# Altium integrated library Xilinx XC9500.IntLib: 208 symbols (part 9 of 14)
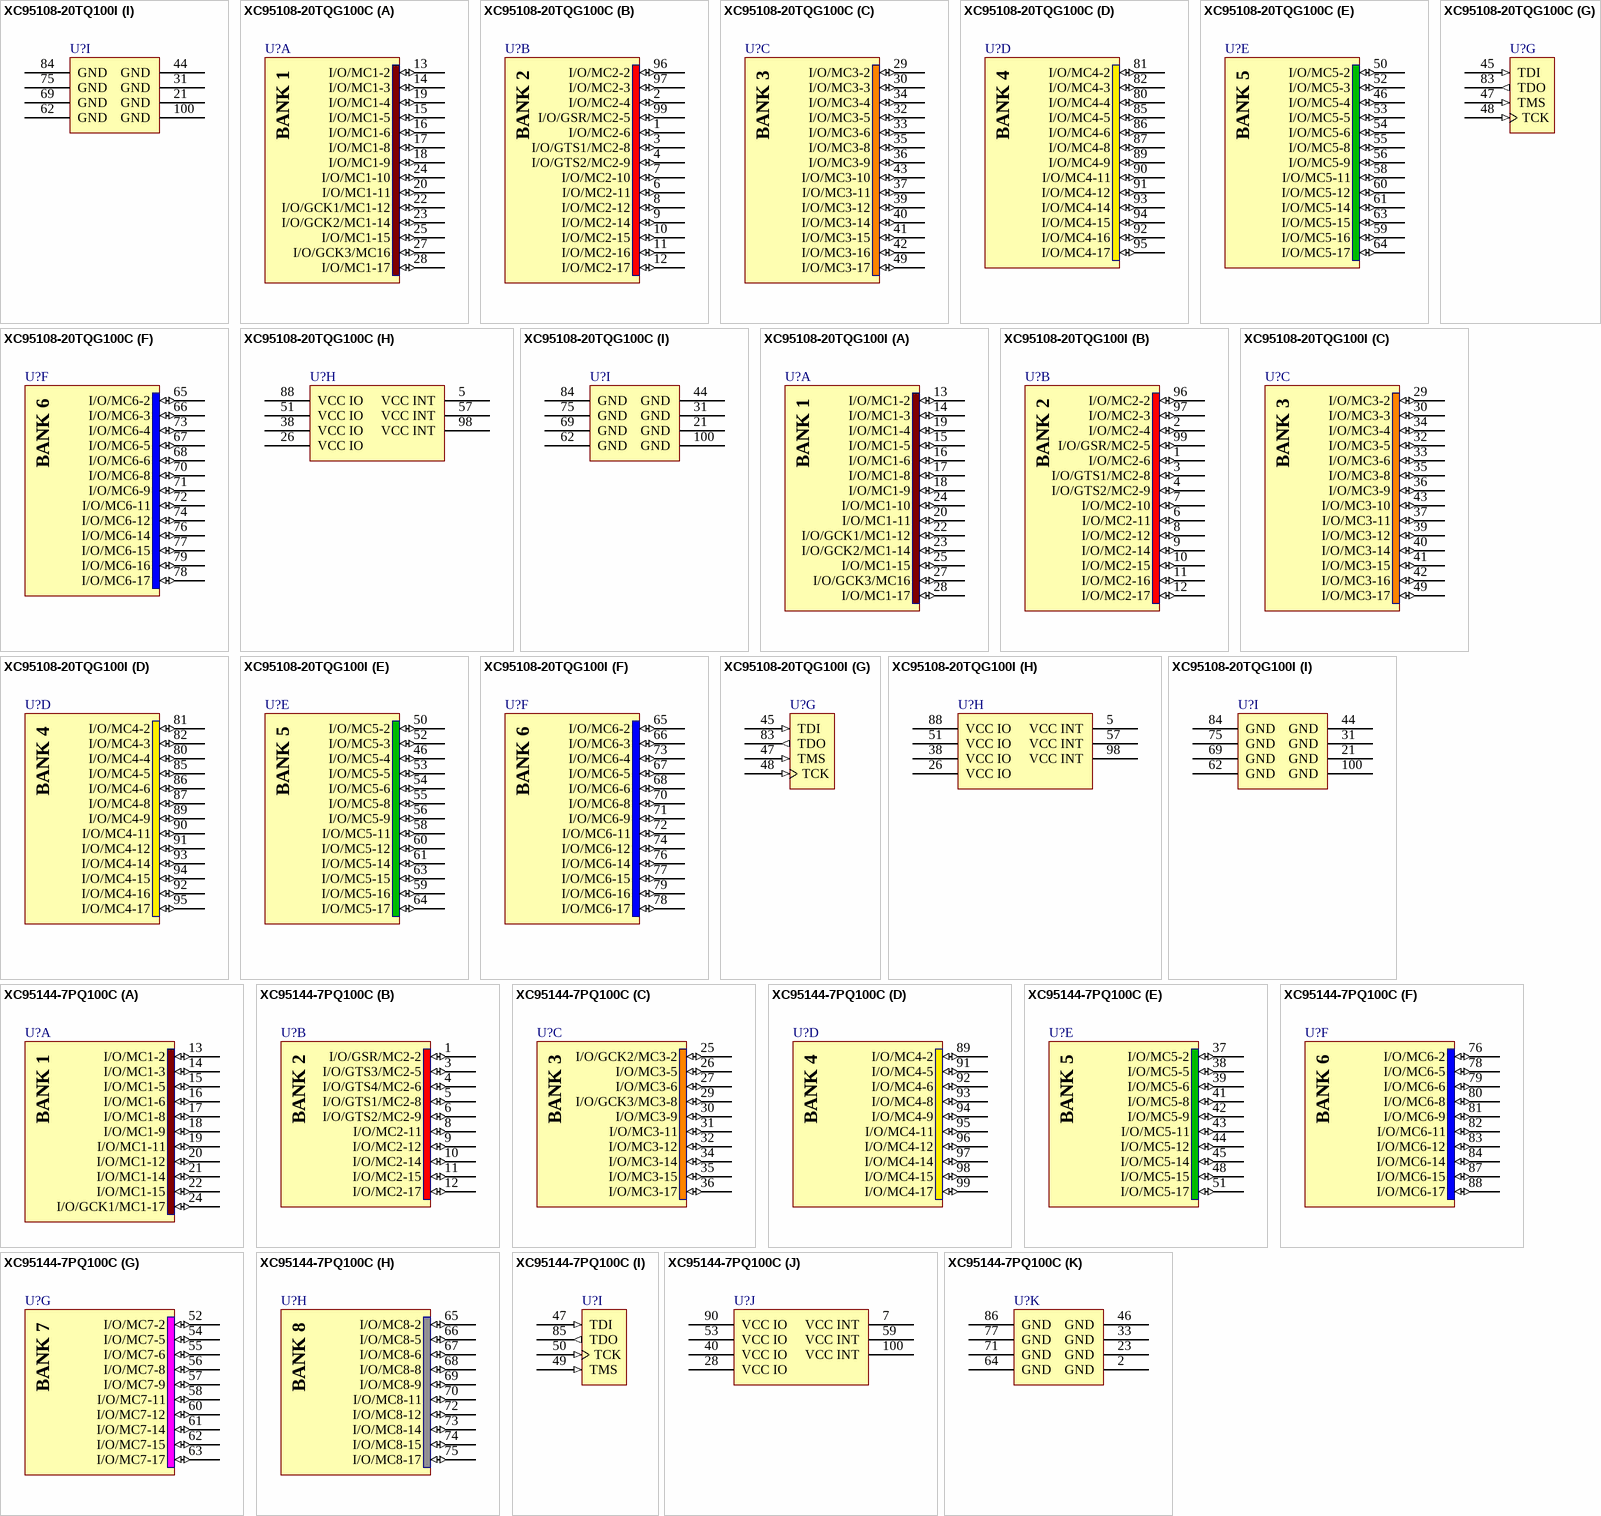
[diagram p81: symbols XC95108-20TQ100I to XC95144-7PQ100C]

## XC95144-7PQ100C
designator U?
XC9500 5V, 144 Macrocell CPLD, 81 User I/Os, 100-Pin PQFP, Commercial Grade; DatasheetVersion: ver5.7, May-2009; PackageVersion: ver1.2, Oct-2002; PackageReference: PQ100; PackageDescription: 100-Pin Plastic Quad Flat Pack (PQ100); Code_IPC: QFP65P1720X2320-100; ComponentLink1Description: Manufacturer URL; ComponentLink1URL: http://www.xilinx.com/; ComponentLink2Description: XC95144 Datasheet; ComponentLink2URL: http://www.xilinx.com/support/documentation/data_sheets/ds067.pdf; ComponentLink3Description: PQ100 Package Drawing; ComponentLink3URL: http://www.xilinx.com/support/documentation/package_specs/pq100.pdf; ComponentLink4Description: XC9500 Documents; ComponentLink4URL: http://www.xilinx.com/support/documentation/xc9500.htm
footprint PQ100_N (QFP, 100-Leads, Body 20x14mm, Pitch 0.65mm, IPC Medium Density)
footprint PQ100_L (QFP, 100-Leads, Body 20x14mm, Pitch 0.65mm, IPC High Density)
footprint PQ100_M (QFP, 100-Leads, Body 20x14mm, Pitch 0.65mm, IPC Low Density)
part A pins: 13 I/O/MC1-2 (io), 14 I/O/MC1-3 (io), 15 I/O/MC1-5 (io), 16 I/O/MC1-6 (io), 17 I/O/MC1-8 (io), 18 I/O/MC1-9 (io), 19 I/O/MC1-11 (io), 20 I/O/MC1-12 (io), 21 I/O/MC1-14 (io), 22 I/O/MC1-15 (io), 24 I/O/GCK1/MC1-17 (io)
part B pins: 1 I/O/GSR/MC2-2 (io), 3 I/O/GTS3/MC2-5 (io), 4 I/O/GTS4/MC2-6 (io), 5 I/O/GTS1/MC2-8 (io), 6 I/O/GTS2/MC2-9 (io), 8 I/O/MC2-11 (io), 9 I/O/MC2-12 (io), 10 I/O/MC2-14 (io), 11 I/O/MC2-15 (io), 12 I/O/MC2-17 (io)
part C pins: 25 I/O/GCK2/MC3-2 (io), 26 I/O/MC3-5 (io), 27 I/O/MC3-6 (io), 29 I/O/GCK3/MC3-8 (io), 30 I/O/MC3-9 (io), 31 I/O/MC3-11 (io), 32 I/O/MC3-12 (io), 34 I/O/MC3-14 (io), 35 I/O/MC3-15 (io), 36 I/O/MC3-17 (io)
part D pins: 89 I/O/MC4-2 (io), 91 I/O/MC4-5 (io), 92 I/O/MC4-6 (io), 93 I/O/MC4-8 (io), 94 I/O/MC4-9 (io), 95 I/O/MC4-11 (io), 96 I/O/MC4-12 (io), 97 I/O/MC4-14 (io), 98 I/O/MC4-15 (io), 99 I/O/MC4-17 (io)
part E pins: 37 I/O/MC5-2 (io), 38 I/O/MC5-5 (io), 39 I/O/MC5-6 (io), 41 I/O/MC5-8 (io), 42 I/O/MC5-9 (io), 43 I/O/MC5-11 (io), 44 I/O/MC5-12 (io), 45 I/O/MC5-14 (io), 48 I/O/MC5-15 (io), 51 I/O/MC5-17 (io)
part F pins: 76 I/O/MC6-2 (io), 78 I/O/MC6-5 (io), 79 I/O/MC6-6 (io), 80 I/O/MC6-8 (io), 81 I/O/MC6-9 (io), 82 I/O/MC6-11 (io), 83 I/O/MC6-12 (io), 84 I/O/MC6-14 (io), 87 I/O/MC6-15 (io), 88 I/O/MC6-17 (io)
part G pins: 52 I/O/MC7-2 (io), 54 I/O/MC7-5 (io), 55 I/O/MC7-6 (io), 56 I/O/MC7-8 (io), 57 I/O/MC7-9 (io), 58 I/O/MC7-11 (io), 60 I/O/MC7-12 (io), 61 I/O/MC7-14 (io), 62 I/O/MC7-15 (io), 63 I/O/MC7-17 (io)
part H pins: 65 I/O/MC8-2 (io), 66 I/O/MC8-5 (io), 67 I/O/MC8-6 (io), 68 I/O/MC8-8 (io), 69 I/O/MC8-9 (io), 70 I/O/MC8-11 (io), 72 I/O/MC8-12 (io), 73 I/O/MC8-14 (io), 74 I/O/MC8-15 (io), 75 I/O/MC8-17 (io)
part I pins: 47 TDI (in), 49 TMS (in), 50 TCK (in), 85 TDO (out)
part J pins: 7 VCC INT (power), 28 VCC IO (power), 40 VCC IO (power), 53 VCC IO (power), 59 VCC INT (power), 90 VCC IO (power), 100 VCC INT (power)
part K pins: 2 GND (power), 23 GND (power), 33 GND (power), 46 GND (power), 64 GND (power), 71 GND (power), 77 GND (power), 86 GND (power)
part A text: BANK 1
part B text: BANK 2
part C text: BANK 3
part D text: BANK 4
part E text: BANK 5
part F text: BANK 6
part G text: BANK 7
part H text: BANK 8

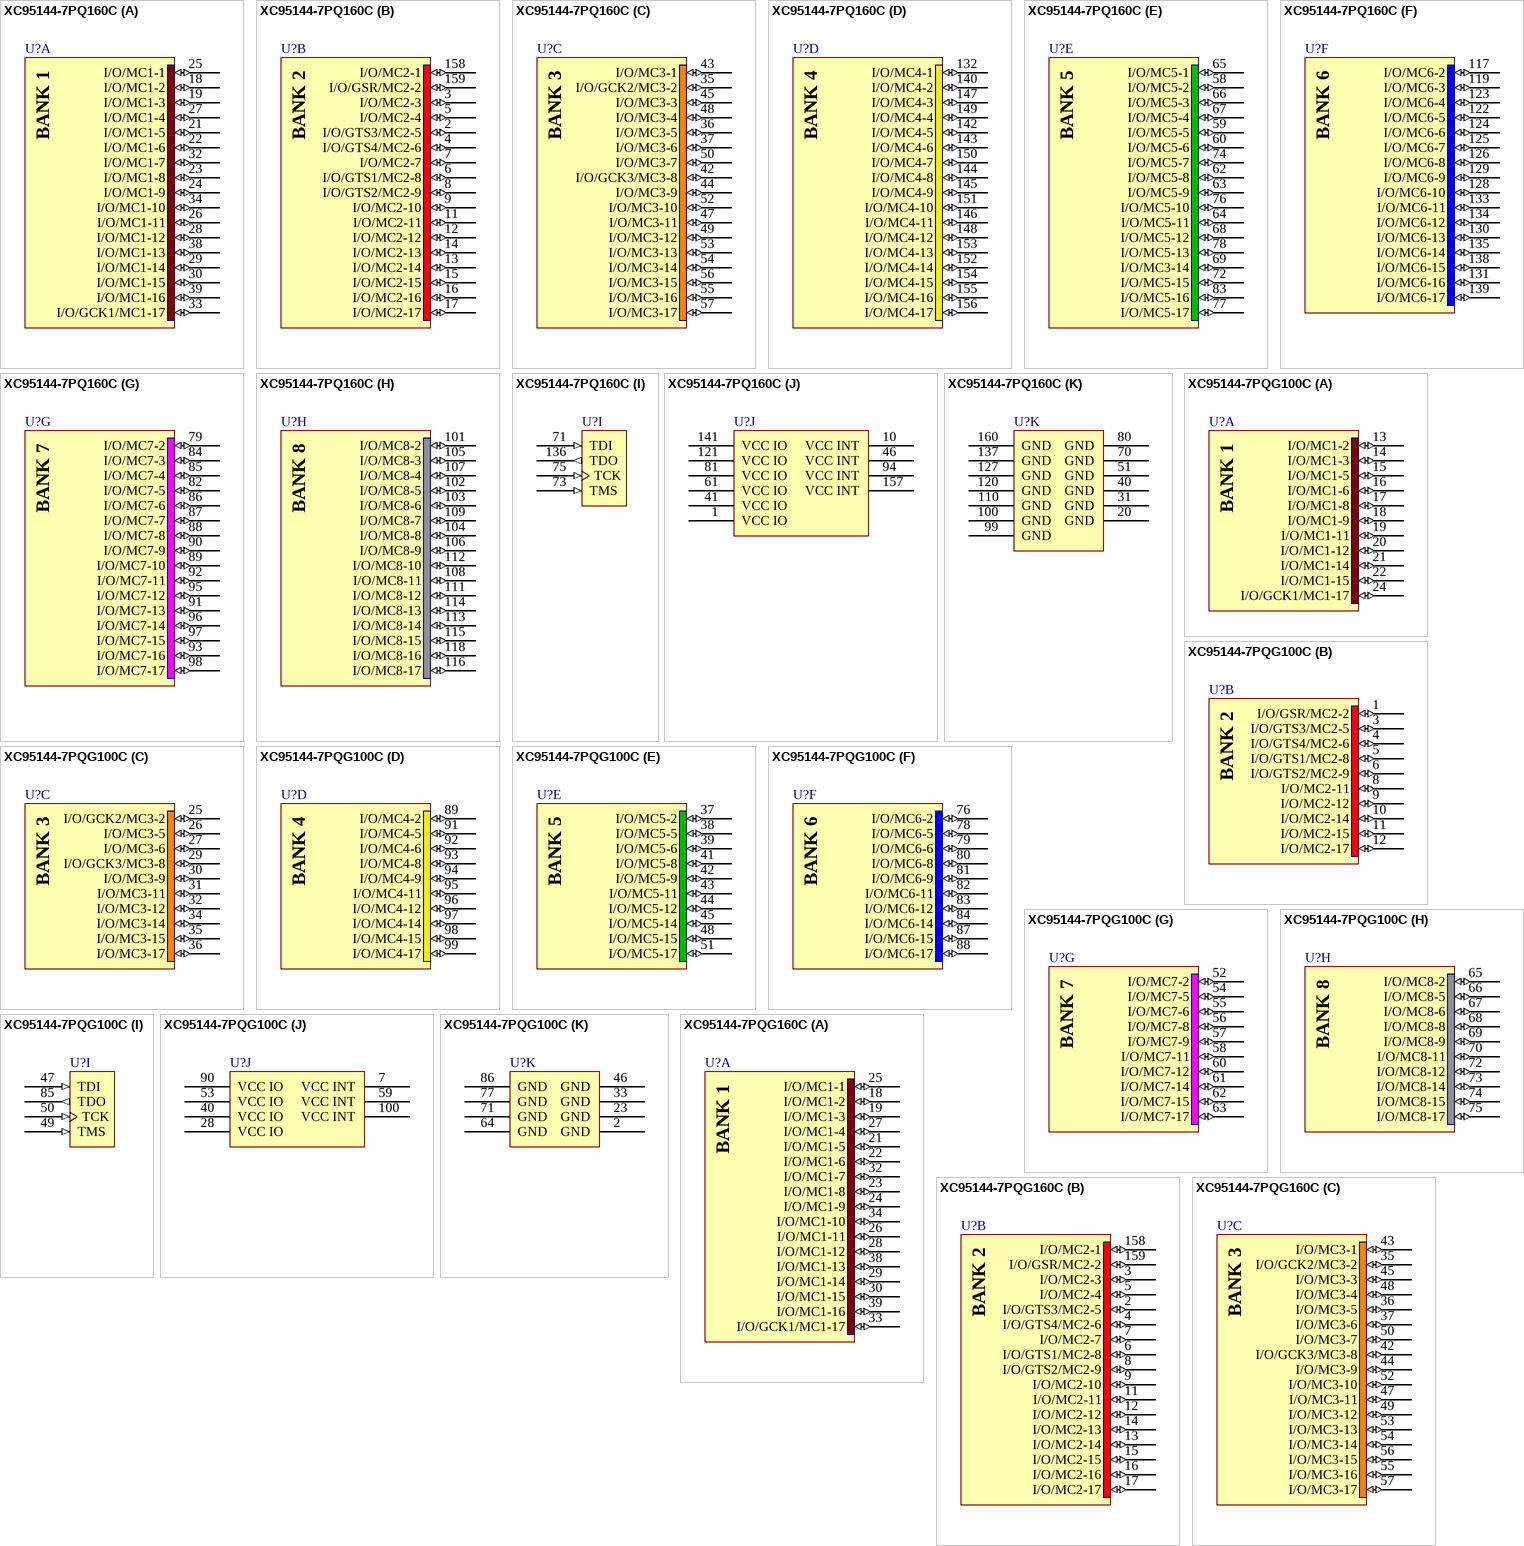
[diagram p41: symbols XC95144-7PQ160C to XC95144-7PQG160C]

## XC95144-7PQ160C
designator U?
XC9500 5V, 144 Macrocell CPLD, 133 User I/Os, 160-Pin PQFP, Commercial Grade; DatasheetVersion: ver5.7, May-2009; PackageVersion: ver1.2, Jun-2004; PackageReference: PQ160; PackageDescription: 160-Pin Plastic Quad Flat Pack (PQ160); Code_JEDEC: MS-022-DD1; Code_IPC: QFP65P3120X3120-160; ComponentLink1Description: Manufacturer URL; ComponentLink1URL: http://www.xilinx.com/; ComponentLink2Description: XC95144 Datasheet; ComponentLink2URL: http://www.xilinx.com/support/documentation/data_sheets/ds067.pdf; ComponentLink3Description: PQ160 Package Drawing; ComponentLink3URL: http://www.xilinx.com/support/documentation/package_specs/pq160.pdf; ComponentLink4Description: XC9500 Documents; ComponentLink4URL: http://www.xilinx.com/support/documentation/xc9500.htm
footprint PQ160_N (QFP, 160-Leads, Body 28x28mm, Pitch 0.65mm, IPC Medium Density)
footprint PQ160_L (QFP, 160-Leads, Body 28x28mm, Pitch 0.65mm, IPC High Density)
footprint PQ160_M (QFP, 160-Leads, Body 28x28mm, Pitch 0.65mm, IPC Low Density)
part A pins: 18 I/O/MC1-2 (io), 19 I/O/MC1-3 (io), 21 I/O/MC1-5 (io), 22 I/O/MC1-6 (io), 23 I/O/MC1-8 (io), 24 I/O/MC1-9 (io), 25 I/O/MC1-1 (io), 26 I/O/MC1-11 (io), 27 I/O/MC1-4 (io), 28 I/O/MC1-12 (io), 29 I/O/MC1-14 (io), 30 I/O/MC1-15 (io), 32 I/O/MC1-7 (io), 33 I/O/GCK1/MC1-17 (io), 34 I/O/MC1-10 (io), 38 I/O/MC1-13 (io), 39 I/O/MC1-16 (io)
part B pins: 2 I/O/GTS3/MC2-5 (io), 3 I/O/MC2-3 (io), 4 I/O/GTS4/MC2-6 (io), 5 I/O/MC2-4 (io), 6 I/O/GTS1/MC2-8 (io), 7 I/O/MC2-7 (io), 8 I/O/GTS2/MC2-9 (io), 9 I/O/MC2-10 (io), 11 I/O/MC2-11 (io), 12 I/O/MC2-12 (io), 13 I/O/MC2-14 (io), 14 I/O/MC2-13 (io), 15 I/O/MC2-15 (io), 16 I/O/MC2-16 (io), 17 I/O/MC2-17 (io), 158 I/O/MC2-1 (io), 159 I/O/GSR/MC2-2 (io)
part C pins: 35 I/O/GCK2/MC3-2 (io), 36 I/O/MC3-5 (io), 37 I/O/MC3-6 (io), 42 I/O/GCK3/MC3-8 (io), 43 I/O/MC3-1 (io), 44 I/O/MC3-9 (io), 45 I/O/MC3-3 (io), 47 I/O/MC3-11 (io), 48 I/O/MC3-4 (io), 49 I/O/MC3-12 (io), 50 I/O/MC3-7 (io), 52 I/O/MC3-10 (io), 53 I/O/MC3-13 (io), 54 I/O/MC3-14 (io), 55 I/O/MC3-16 (io), 56 I/O/MC3-15 (io), 57 I/O/MC3-17 (io)
part D pins: 132 I/O/MC4-1 (io), 140 I/O/MC4-2 (io), 142 I/O/MC4-5 (io), 143 I/O/MC4-6 (io), 144 I/O/MC4-8 (io), 145 I/O/MC4-9 (io), 146 I/O/MC4-11 (io), 147 I/O/MC4-3 (io), 148 I/O/MC4-12 (io), 149 I/O/MC4-4 (io), 150 I/O/MC4-7 (io), 151 I/O/MC4-10 (io), 152 I/O/MC4-14 (io), 153 I/O/MC4-13 (io), 154 I/O/MC4-15 (io), 155 I/O/MC4-16 (io), 156 I/O/MC4-17 (io)
part E pins: 58 I/O/MC5-2 (io), 59 I/O/MC5-5 (io), 60 I/O/MC5-6 (io), 62 I/O/MC5-8 (io), 63 I/O/MC5-9 (io), 64 I/O/MC5-11 (io), 65 I/O/MC5-1 (io), 66 I/O/MC5-3 (io), 67 I/O/MC5-4 (io), 68 I/O/MC5-12 (io), 69 I/O/MC3-14 (io), 72 I/O/MC5-15 (io), 74 I/O/MC5-7 (io), 76 I/O/MC5-10 (io), 77 I/O/MC5-17 (io), 78 I/O/MC5-13 (io), 83 I/O/MC5-16 (io)
part F pins: 117 I/O/MC6-2 (io), 119 I/O/MC6-3 (io), 122 I/O/MC6-5 (io), 123 I/O/MC6-4 (io), 124 I/O/MC6-6 (io), 125 I/O/MC6-7 (io), 126 I/O/MC6-8 (io), 128 I/O/MC6-10 (io), 129 I/O/MC6-9 (io), 130 I/O/MC6-13 (io), 131 I/O/MC6-16 (io), 133 I/O/MC6-11 (io), 134 I/O/MC6-12 (io), 135 I/O/MC6-14 (io), 138 I/O/MC6-15 (io), 139 I/O/MC6-17 (io)
part G pins: 79 I/O/MC7-2 (io), 82 I/O/MC7-5 (io), 84 I/O/MC7-3 (io), 85 I/O/MC7-4 (io), 86 I/O/MC7-6 (io), 87 I/O/MC7-7 (io), 88 I/O/MC7-8 (io), 89 I/O/MC7-10 (io), 90 I/O/MC7-9 (io), 91 I/O/MC7-13 (io), 92 I/O/MC7-11 (io), 93 I/O/MC7-16 (io), 95 I/O/MC7-12 (io), 96 I/O/MC7-14 (io), 97 I/O/MC7-15 (io), 98 I/O/MC7-17 (io)
part H pins: 101 I/O/MC8-2 (io), 102 I/O/MC8-5 (io), 103 I/O/MC8-6 (io), 104 I/O/MC8-8 (io), 105 I/O/MC8-3 (io), 106 I/O/MC8-9 (io), 107 I/O/MC8-4 (io), 108 I/O/MC8-11 (io), 109 I/O/MC8-7 (io), 111 I/O/MC8-12 (io), 112 I/O/MC8-10 (io), 113 I/O/MC8-14 (io), 114 I/O/MC8-13 (io), 115 I/O/MC8-15 (io), 116 I/O/MC8-17 (io), 118 I/O/MC8-16 (io)
part I pins: 71 TDI (in), 73 TMS (in), 75 TCK (in), 136 TDO (out)
part J pins: 1 VCC IO (power), 10 VCC INT (power), 41 VCC IO (power), 46 VCC INT (power), 61 VCC IO (power), 81 VCC IO (power), 94 VCC INT (power), 121 VCC IO (power), 141 VCC IO (power), 157 VCC INT (power)
part K pins: 20 GND (power), 31 GND (power), 40 GND (power), 51 GND (power), 70 GND (power), 80 GND (power), 99 GND (power), 100 GND (power), 110 GND (power), 120 GND (power), 127 GND (power), 137 GND (power), 160 GND (power)
part A text: BANK 1
part B text: BANK 2
part C text: BANK 3
part D text: BANK 4
part E text: BANK 5
part F text: BANK 6
part G text: BANK 7
part H text: BANK 8

## XC95144-7PQG100C
designator U?
XC9500 5V, 144 Macrocell CPLD, 81 User I/Os, 100-Pin PQFP, Commercial Grade, Pb-Free; DatasheetVersion: ver5.7, May-2009; PackageVersion: ver1.2, Oct-2002; PackageReference: PQG100; PackageDescription: 100-Pin Plastic Quad Flat Pack (PQG100) - Pb-Free; Code_IPC: QFP65P1720X2320-100; ComponentLink1Description: Manufacturer URL; ComponentLink1URL: http://www.xilinx.com/; ComponentLink2Description: XC95144 Datasheet; ComponentLink2URL: http://www.xilinx.com/support/documentation/data_sheets/ds067.pdf; ComponentLink3Description: PQG100 Package Drawing; ComponentLink3URL: http://www.xilinx.com/support/documentation/package_specs/pq100.pdf; ComponentLink4Description: XC9500 Documents; ComponentLink4URL: http://www.xilinx.com/support/documentation/xc9500.htm
footprint PQG100_N (QFP, 100-Leads, Body 20x14mm, Pitch 0.65mm, IPC Medium Density)
footprint PQG100_L (QFP, 100-Leads, Body 20x14mm, Pitch 0.65mm, IPC High Density)
footprint PQG100_M (QFP, 100-Leads, Body 20x14mm, Pitch 0.65mm, IPC Low Density)
part A pins: 13 I/O/MC1-2 (io), 14 I/O/MC1-3 (io), 15 I/O/MC1-5 (io), 16 I/O/MC1-6 (io), 17 I/O/MC1-8 (io), 18 I/O/MC1-9 (io), 19 I/O/MC1-11 (io), 20 I/O/MC1-12 (io), 21 I/O/MC1-14 (io), 22 I/O/MC1-15 (io), 24 I/O/GCK1/MC1-17 (io)
part B pins: 1 I/O/GSR/MC2-2 (io), 3 I/O/GTS3/MC2-5 (io), 4 I/O/GTS4/MC2-6 (io), 5 I/O/GTS1/MC2-8 (io), 6 I/O/GTS2/MC2-9 (io), 8 I/O/MC2-11 (io), 9 I/O/MC2-12 (io), 10 I/O/MC2-14 (io), 11 I/O/MC2-15 (io), 12 I/O/MC2-17 (io)
part C pins: 25 I/O/GCK2/MC3-2 (io), 26 I/O/MC3-5 (io), 27 I/O/MC3-6 (io), 29 I/O/GCK3/MC3-8 (io), 30 I/O/MC3-9 (io), 31 I/O/MC3-11 (io), 32 I/O/MC3-12 (io), 34 I/O/MC3-14 (io), 35 I/O/MC3-15 (io), 36 I/O/MC3-17 (io)
part D pins: 89 I/O/MC4-2 (io), 91 I/O/MC4-5 (io), 92 I/O/MC4-6 (io), 93 I/O/MC4-8 (io), 94 I/O/MC4-9 (io), 95 I/O/MC4-11 (io), 96 I/O/MC4-12 (io), 97 I/O/MC4-14 (io), 98 I/O/MC4-15 (io), 99 I/O/MC4-17 (io)
part E pins: 37 I/O/MC5-2 (io), 38 I/O/MC5-5 (io), 39 I/O/MC5-6 (io), 41 I/O/MC5-8 (io), 42 I/O/MC5-9 (io), 43 I/O/MC5-11 (io), 44 I/O/MC5-12 (io), 45 I/O/MC5-14 (io), 48 I/O/MC5-15 (io), 51 I/O/MC5-17 (io)
part F pins: 76 I/O/MC6-2 (io), 78 I/O/MC6-5 (io), 79 I/O/MC6-6 (io), 80 I/O/MC6-8 (io), 81 I/O/MC6-9 (io), 82 I/O/MC6-11 (io), 83 I/O/MC6-12 (io), 84 I/O/MC6-14 (io), 87 I/O/MC6-15 (io), 88 I/O/MC6-17 (io)
part G pins: 52 I/O/MC7-2 (io), 54 I/O/MC7-5 (io), 55 I/O/MC7-6 (io), 56 I/O/MC7-8 (io), 57 I/O/MC7-9 (io), 58 I/O/MC7-11 (io), 60 I/O/MC7-12 (io), 61 I/O/MC7-14 (io), 62 I/O/MC7-15 (io), 63 I/O/MC7-17 (io)
part H pins: 65 I/O/MC8-2 (io), 66 I/O/MC8-5 (io), 67 I/O/MC8-6 (io), 68 I/O/MC8-8 (io), 69 I/O/MC8-9 (io), 70 I/O/MC8-11 (io), 72 I/O/MC8-12 (io), 73 I/O/MC8-14 (io), 74 I/O/MC8-15 (io), 75 I/O/MC8-17 (io)
part I pins: 47 TDI (in), 49 TMS (in), 50 TCK (in), 85 TDO (out)
part J pins: 7 VCC INT (power), 28 VCC IO (power), 40 VCC IO (power), 53 VCC IO (power), 59 VCC INT (power), 90 VCC IO (power), 100 VCC INT (power)
part K pins: 2 GND (power), 23 GND (power), 33 GND (power), 46 GND (power), 64 GND (power), 71 GND (power), 77 GND (power), 86 GND (power)
part A text: BANK 1
part B text: BANK 2
part C text: BANK 3
part D text: BANK 4
part E text: BANK 5
part F text: BANK 6
part G text: BANK 7
part H text: BANK 8

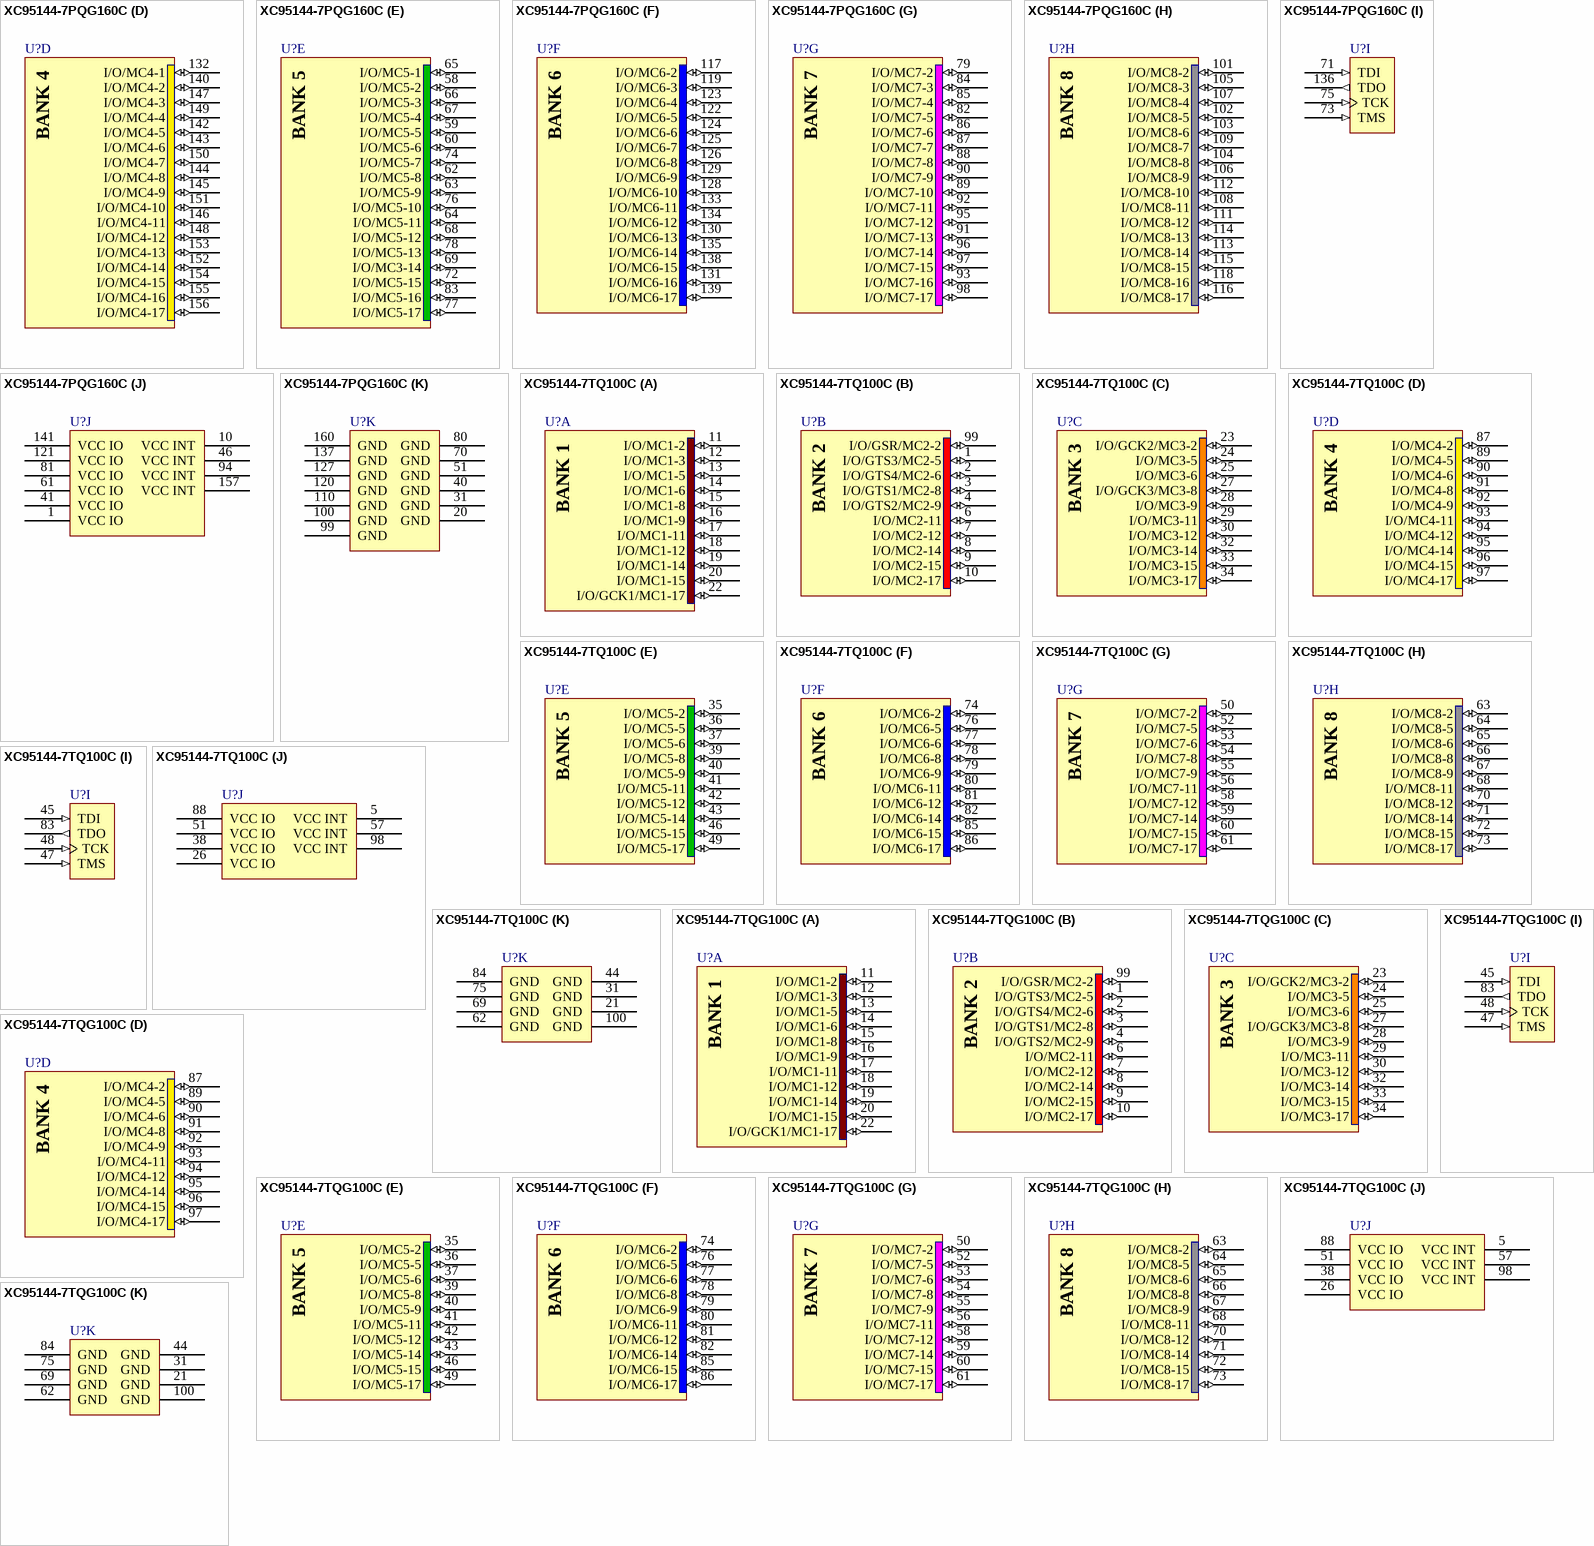
[diagram p42: symbols XC95144-7PQG160C to XC95144-7TQG100C]

## XC95144-7PQG160C
designator U?
XC9500 5V, 144 Macrocell CPLD, 133 User I/Os, 160-Pin PQFP, Commercial Grade, Pb-Free; DatasheetVersion: ver5.7, May-2009; PackageVersion: ver1.2, Jun-2004; PackageReference: PQG160; PackageDescription: 160-Pin Plastic Quad Flat Pack (PQG160) - Pb-Free; Code_JEDEC: MS-022-DD1; Code_IPC: QFP65P3120X3120-160; ComponentLink1Description: Manufacturer URL; ComponentLink1URL: http://www.xilinx.com/; ComponentLink2Description: XC95144 Datasheet; ComponentLink2URL: http://www.xilinx.com/support/documentation/data_sheets/ds067.pdf; ComponentLink3Description: PQG160 Package Drawing; ComponentLink3URL: http://www.xilinx.com/support/documentation/package_specs/pq160.pdf; ComponentLink4Description: XC9500 Documents; ComponentLink4URL: http://www.xilinx.com/support/documentation/xc9500.htm
footprint PQG160_N (QFP, 160-Leads, Body 28x28mm, Pitch 0.65mm, IPC Medium Density)
footprint PQG160_L (QFP, 160-Leads, Body 28x28mm, Pitch 0.65mm, IPC High Density)
footprint PQG160_M (QFP, 160-Leads, Body 28x28mm, Pitch 0.65mm, IPC Low Density)
part A pins: 18 I/O/MC1-2 (io), 19 I/O/MC1-3 (io), 21 I/O/MC1-5 (io), 22 I/O/MC1-6 (io), 23 I/O/MC1-8 (io), 24 I/O/MC1-9 (io), 25 I/O/MC1-1 (io), 26 I/O/MC1-11 (io), 27 I/O/MC1-4 (io), 28 I/O/MC1-12 (io), 29 I/O/MC1-14 (io), 30 I/O/MC1-15 (io), 32 I/O/MC1-7 (io), 33 I/O/GCK1/MC1-17 (io), 34 I/O/MC1-10 (io), 38 I/O/MC1-13 (io), 39 I/O/MC1-16 (io)
part B pins: 2 I/O/GTS3/MC2-5 (io), 3 I/O/MC2-3 (io), 4 I/O/GTS4/MC2-6 (io), 5 I/O/MC2-4 (io), 6 I/O/GTS1/MC2-8 (io), 7 I/O/MC2-7 (io), 8 I/O/GTS2/MC2-9 (io), 9 I/O/MC2-10 (io), 11 I/O/MC2-11 (io), 12 I/O/MC2-12 (io), 13 I/O/MC2-14 (io), 14 I/O/MC2-13 (io), 15 I/O/MC2-15 (io), 16 I/O/MC2-16 (io), 17 I/O/MC2-17 (io), 158 I/O/MC2-1 (io), 159 I/O/GSR/MC2-2 (io)
part C pins: 35 I/O/GCK2/MC3-2 (io), 36 I/O/MC3-5 (io), 37 I/O/MC3-6 (io), 42 I/O/GCK3/MC3-8 (io), 43 I/O/MC3-1 (io), 44 I/O/MC3-9 (io), 45 I/O/MC3-3 (io), 47 I/O/MC3-11 (io), 48 I/O/MC3-4 (io), 49 I/O/MC3-12 (io), 50 I/O/MC3-7 (io), 52 I/O/MC3-10 (io), 53 I/O/MC3-13 (io), 54 I/O/MC3-14 (io), 55 I/O/MC3-16 (io), 56 I/O/MC3-15 (io), 57 I/O/MC3-17 (io)
part D pins: 132 I/O/MC4-1 (io), 140 I/O/MC4-2 (io), 142 I/O/MC4-5 (io), 143 I/O/MC4-6 (io), 144 I/O/MC4-8 (io), 145 I/O/MC4-9 (io), 146 I/O/MC4-11 (io), 147 I/O/MC4-3 (io), 148 I/O/MC4-12 (io), 149 I/O/MC4-4 (io), 150 I/O/MC4-7 (io), 151 I/O/MC4-10 (io), 152 I/O/MC4-14 (io), 153 I/O/MC4-13 (io), 154 I/O/MC4-15 (io), 155 I/O/MC4-16 (io), 156 I/O/MC4-17 (io)
part E pins: 58 I/O/MC5-2 (io), 59 I/O/MC5-5 (io), 60 I/O/MC5-6 (io), 62 I/O/MC5-8 (io), 63 I/O/MC5-9 (io), 64 I/O/MC5-11 (io), 65 I/O/MC5-1 (io), 66 I/O/MC5-3 (io), 67 I/O/MC5-4 (io), 68 I/O/MC5-12 (io), 69 I/O/MC3-14 (io), 72 I/O/MC5-15 (io), 74 I/O/MC5-7 (io), 76 I/O/MC5-10 (io), 77 I/O/MC5-17 (io), 78 I/O/MC5-13 (io), 83 I/O/MC5-16 (io)
part F pins: 117 I/O/MC6-2 (io), 119 I/O/MC6-3 (io), 122 I/O/MC6-5 (io), 123 I/O/MC6-4 (io), 124 I/O/MC6-6 (io), 125 I/O/MC6-7 (io), 126 I/O/MC6-8 (io), 128 I/O/MC6-10 (io), 129 I/O/MC6-9 (io), 130 I/O/MC6-13 (io), 131 I/O/MC6-16 (io), 133 I/O/MC6-11 (io), 134 I/O/MC6-12 (io), 135 I/O/MC6-14 (io), 138 I/O/MC6-15 (io), 139 I/O/MC6-17 (io)
part G pins: 79 I/O/MC7-2 (io), 82 I/O/MC7-5 (io), 84 I/O/MC7-3 (io), 85 I/O/MC7-4 (io), 86 I/O/MC7-6 (io), 87 I/O/MC7-7 (io), 88 I/O/MC7-8 (io), 89 I/O/MC7-10 (io), 90 I/O/MC7-9 (io), 91 I/O/MC7-13 (io), 92 I/O/MC7-11 (io), 93 I/O/MC7-16 (io), 95 I/O/MC7-12 (io), 96 I/O/MC7-14 (io), 97 I/O/MC7-15 (io), 98 I/O/MC7-17 (io)
part H pins: 101 I/O/MC8-2 (io), 102 I/O/MC8-5 (io), 103 I/O/MC8-6 (io), 104 I/O/MC8-8 (io), 105 I/O/MC8-3 (io), 106 I/O/MC8-9 (io), 107 I/O/MC8-4 (io), 108 I/O/MC8-11 (io), 109 I/O/MC8-7 (io), 111 I/O/MC8-12 (io), 112 I/O/MC8-10 (io), 113 I/O/MC8-14 (io), 114 I/O/MC8-13 (io), 115 I/O/MC8-15 (io), 116 I/O/MC8-17 (io), 118 I/O/MC8-16 (io)
part I pins: 71 TDI (in), 73 TMS (in), 75 TCK (in), 136 TDO (out)
part J pins: 1 VCC IO (power), 10 VCC INT (power), 41 VCC IO (power), 46 VCC INT (power), 61 VCC IO (power), 81 VCC IO (power), 94 VCC INT (power), 121 VCC IO (power), 141 VCC IO (power), 157 VCC INT (power)
part K pins: 20 GND (power), 31 GND (power), 40 GND (power), 51 GND (power), 70 GND (power), 80 GND (power), 99 GND (power), 100 GND (power), 110 GND (power), 120 GND (power), 127 GND (power), 137 GND (power), 160 GND (power)
part A text: BANK 1
part B text: BANK 2
part C text: BANK 3
part D text: BANK 4
part E text: BANK 5
part F text: BANK 6
part G text: BANK 7
part H text: BANK 8

## XC95144-7TQ100C
designator U?
XC9500 5V, 144 Macrocell CPLD, 81 User I/Os, 100-Pin TQFP, Commercial Grade; DatasheetVersion: ver5.7, May-2009; PackageVersion: ver1.2, Jun-2004; PackageReference: TQ100; PackageDescription: 100-Pin Thin Quad Flat Pack (TQ100); ComponentLink1Description: Manufacturer URL; ComponentLink1URL: http://www.xilinx.com/; ComponentLink2Description: XC95144 Datasheet; ComponentLink2URL: http://www.xilinx.com/support/documentation/data_sheets/ds067.pdf; ComponentLink3Description: TQ100 Package Drawing; ComponentLink3URL: http://www.xilinx.com/support/documentation/package_specs/tq100.pdf; ComponentLink4Description: XC9500 Documents; ComponentLink4URL: http://www.xilinx.com/support/documentation/xc9500.htm
footprint TQ100_N (Thin QFP, 100-Leads, Body 14x14mm, Pitch 0.5mm, IPC Medium Density)
footprint TQ100_L (Thin QFP, 100-Leads, Body 14x14mm, Pitch 0.5mm, IPC High Density)
footprint TQ100_M (Thin QFP, 100-Leads, Body 14x14mm, Pitch 0.5mm, IPC Low Density)
part A pins: 11 I/O/MC1-2 (io), 12 I/O/MC1-3 (io), 13 I/O/MC1-5 (io), 14 I/O/MC1-6 (io), 15 I/O/MC1-8 (io), 16 I/O/MC1-9 (io), 17 I/O/MC1-11 (io), 18 I/O/MC1-12 (io), 19 I/O/MC1-14 (io), 20 I/O/MC1-15 (io), 22 I/O/GCK1/MC1-17 (io)
part B pins: 1 I/O/GTS3/MC2-5 (io), 2 I/O/GTS4/MC2-6 (io), 3 I/O/GTS1/MC2-8 (io), 4 I/O/GTS2/MC2-9 (io), 6 I/O/MC2-11 (io), 7 I/O/MC2-12 (io), 8 I/O/MC2-14 (io), 9 I/O/MC2-15 (io), 10 I/O/MC2-17 (io), 99 I/O/GSR/MC2-2 (io)
part C pins: 23 I/O/GCK2/MC3-2 (io), 24 I/O/MC3-5 (io), 25 I/O/MC3-6 (io), 27 I/O/GCK3/MC3-8 (io), 28 I/O/MC3-9 (io), 29 I/O/MC3-11 (io), 30 I/O/MC3-12 (io), 32 I/O/MC3-14 (io), 33 I/O/MC3-15 (io), 34 I/O/MC3-17 (io)
part D pins: 87 I/O/MC4-2 (io), 89 I/O/MC4-5 (io), 90 I/O/MC4-6 (io), 91 I/O/MC4-8 (io), 92 I/O/MC4-9 (io), 93 I/O/MC4-11 (io), 94 I/O/MC4-12 (io), 95 I/O/MC4-14 (io), 96 I/O/MC4-15 (io), 97 I/O/MC4-17 (io)
part E pins: 35 I/O/MC5-2 (io), 36 I/O/MC5-5 (io), 37 I/O/MC5-6 (io), 39 I/O/MC5-8 (io), 40 I/O/MC5-9 (io), 41 I/O/MC5-11 (io), 42 I/O/MC5-12 (io), 43 I/O/MC5-14 (io), 46 I/O/MC5-15 (io), 49 I/O/MC5-17 (io)
part F pins: 74 I/O/MC6-2 (io), 76 I/O/MC6-5 (io), 77 I/O/MC6-6 (io), 78 I/O/MC6-8 (io), 79 I/O/MC6-9 (io), 80 I/O/MC6-11 (io), 81 I/O/MC6-12 (io), 82 I/O/MC6-14 (io), 85 I/O/MC6-15 (io), 86 I/O/MC6-17 (io)
part G pins: 50 I/O/MC7-2 (io), 52 I/O/MC7-5 (io), 53 I/O/MC7-6 (io), 54 I/O/MC7-8 (io), 55 I/O/MC7-9 (io), 56 I/O/MC7-11 (io), 58 I/O/MC7-12 (io), 59 I/O/MC7-14 (io), 60 I/O/MC7-15 (io), 61 I/O/MC7-17 (io)
part H pins: 63 I/O/MC8-2 (io), 64 I/O/MC8-5 (io), 65 I/O/MC8-6 (io), 66 I/O/MC8-8 (io), 67 I/O/MC8-9 (io), 68 I/O/MC8-11 (io), 70 I/O/MC8-12 (io), 71 I/O/MC8-14 (io), 72 I/O/MC8-15 (io), 73 I/O/MC8-17 (io)
part I pins: 45 TDI (in), 47 TMS (in), 48 TCK (in), 83 TDO (out)
part J pins: 5 VCC INT (power), 26 VCC IO (power), 38 VCC IO (power), 51 VCC IO (power), 57 VCC INT (power), 88 VCC IO (power), 98 VCC INT (power)
part K pins: 21 GND (power), 31 GND (power), 44 GND (power), 62 GND (power), 69 GND (power), 75 GND (power), 84 GND (power), 100 GND (power)
part A text: BANK 1
part B text: BANK 2
part C text: BANK 3
part D text: BANK 4
part E text: BANK 5
part F text: BANK 6
part G text: BANK 7
part H text: BANK 8

## XC95144-7TQG100C
designator U?
XC9500 5V, 144 Macrocell CPLD, 81 User I/Os, 100-Pin TQFP, Commercial Grade, Pb-Free; DatasheetVersion: ver5.7, May-2009; PackageVersion: ver1.2, Jun-2004; PackageReference: TQG100; PackageDescription: 100-Pin Thin Quad Flat Pack (TQG100) - Pb-Free; ComponentLink1Description: Manufacturer URL; ComponentLink1URL: http://www.xilinx.com/; ComponentLink2Description: XC95144 Datasheet; ComponentLink2URL: http://www.xilinx.com/support/documentation/data_sheets/ds067.pdf; ComponentLink3Description: TQG100 Package Drawing; ComponentLink3URL: http://www.xilinx.com/support/documentation/package_specs/tq100.pdf; ComponentLink4Description: XC9500 Documents; ComponentLink4URL: http://www.xilinx.com/support/documentation/xc9500.htm
footprint TQG100_N (Thin QFP, 100-Leads, Body 14x14mm, Pitch 0.5mm, IPC Medium Density)
footprint TQG100_L (Thin QFP, 100-Leads, Body 14x14mm, Pitch 0.5mm, IPC High Density)
footprint TQG100_M (Thin QFP, 100-Leads, Body 14x14mm, Pitch 0.5mm, IPC Low Density)
part A pins: 11 I/O/MC1-2 (io), 12 I/O/MC1-3 (io), 13 I/O/MC1-5 (io), 14 I/O/MC1-6 (io), 15 I/O/MC1-8 (io), 16 I/O/MC1-9 (io), 17 I/O/MC1-11 (io), 18 I/O/MC1-12 (io), 19 I/O/MC1-14 (io), 20 I/O/MC1-15 (io), 22 I/O/GCK1/MC1-17 (io)
part B pins: 1 I/O/GTS3/MC2-5 (io), 2 I/O/GTS4/MC2-6 (io), 3 I/O/GTS1/MC2-8 (io), 4 I/O/GTS2/MC2-9 (io), 6 I/O/MC2-11 (io), 7 I/O/MC2-12 (io), 8 I/O/MC2-14 (io), 9 I/O/MC2-15 (io), 10 I/O/MC2-17 (io), 99 I/O/GSR/MC2-2 (io)
part C pins: 23 I/O/GCK2/MC3-2 (io), 24 I/O/MC3-5 (io), 25 I/O/MC3-6 (io), 27 I/O/GCK3/MC3-8 (io), 28 I/O/MC3-9 (io), 29 I/O/MC3-11 (io), 30 I/O/MC3-12 (io), 32 I/O/MC3-14 (io), 33 I/O/MC3-15 (io), 34 I/O/MC3-17 (io)
part D pins: 87 I/O/MC4-2 (io), 89 I/O/MC4-5 (io), 90 I/O/MC4-6 (io), 91 I/O/MC4-8 (io), 92 I/O/MC4-9 (io), 93 I/O/MC4-11 (io), 94 I/O/MC4-12 (io), 95 I/O/MC4-14 (io), 96 I/O/MC4-15 (io), 97 I/O/MC4-17 (io)
part E pins: 35 I/O/MC5-2 (io), 36 I/O/MC5-5 (io), 37 I/O/MC5-6 (io), 39 I/O/MC5-8 (io), 40 I/O/MC5-9 (io), 41 I/O/MC5-11 (io), 42 I/O/MC5-12 (io), 43 I/O/MC5-14 (io), 46 I/O/MC5-15 (io), 49 I/O/MC5-17 (io)
part F pins: 74 I/O/MC6-2 (io), 76 I/O/MC6-5 (io), 77 I/O/MC6-6 (io), 78 I/O/MC6-8 (io), 79 I/O/MC6-9 (io), 80 I/O/MC6-11 (io), 81 I/O/MC6-12 (io), 82 I/O/MC6-14 (io), 85 I/O/MC6-15 (io), 86 I/O/MC6-17 (io)
part G pins: 50 I/O/MC7-2 (io), 52 I/O/MC7-5 (io), 53 I/O/MC7-6 (io), 54 I/O/MC7-8 (io), 55 I/O/MC7-9 (io), 56 I/O/MC7-11 (io), 58 I/O/MC7-12 (io), 59 I/O/MC7-14 (io), 60 I/O/MC7-15 (io), 61 I/O/MC7-17 (io)
part H pins: 63 I/O/MC8-2 (io), 64 I/O/MC8-5 (io), 65 I/O/MC8-6 (io), 66 I/O/MC8-8 (io), 67 I/O/MC8-9 (io), 68 I/O/MC8-11 (io), 70 I/O/MC8-12 (io), 71 I/O/MC8-14 (io), 72 I/O/MC8-15 (io), 73 I/O/MC8-17 (io)
part I pins: 45 TDI (in), 47 TMS (in), 48 TCK (in), 83 TDO (out)
part J pins: 5 VCC INT (power), 26 VCC IO (power), 38 VCC IO (power), 51 VCC IO (power), 57 VCC INT (power), 88 VCC IO (power), 98 VCC INT (power)
part K pins: 21 GND (power), 31 GND (power), 44 GND (power), 62 GND (power), 69 GND (power), 75 GND (power), 84 GND (power), 100 GND (power)
part A text: BANK 1
part B text: BANK 2
part C text: BANK 3
part D text: BANK 4
part E text: BANK 5
part F text: BANK 6
part G text: BANK 7
part H text: BANK 8

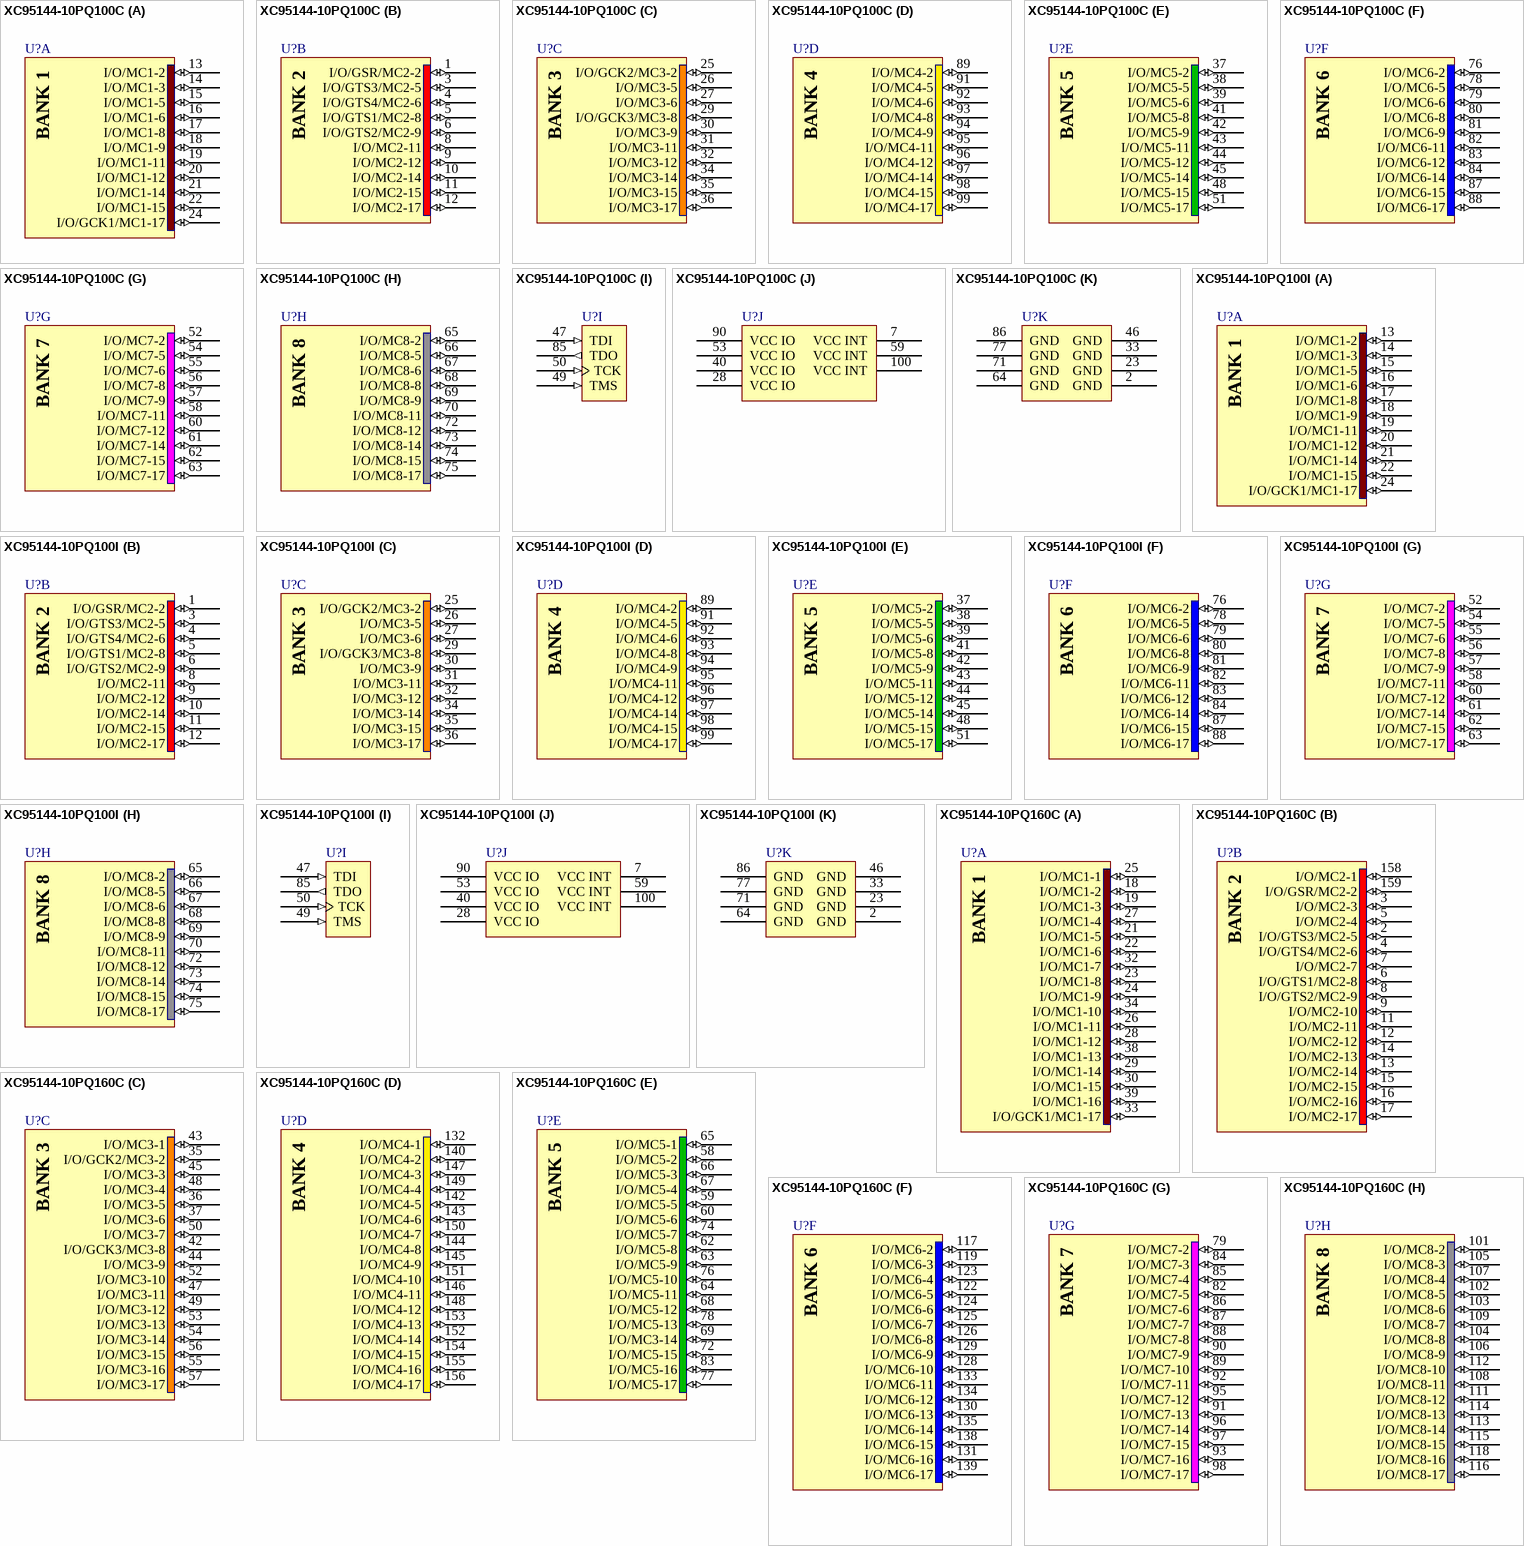
[diagram p43: symbols XC95144-10PQ100C to XC95144-10PQ160C]

## XC95144-10PQ100C
designator U?
XC9500 5V, 144 Macrocell CPLD, 81 User I/Os, 100-Pin PQFP, Commercial Grade; DatasheetVersion: ver5.7, May-2009; PackageVersion: ver1.2, Oct-2002; PackageReference: PQ100; PackageDescription: 100-Pin Plastic Quad Flat Pack (PQ100); Code_IPC: QFP65P1720X2320-100; ComponentLink1Description: Manufacturer URL; ComponentLink1URL: http://www.xilinx.com/; ComponentLink2Description: XC95144 Datasheet; ComponentLink2URL: http://www.xilinx.com/support/documentation/data_sheets/ds067.pdf; ComponentLink3Description: PQ100 Package Drawing; ComponentLink3URL: http://www.xilinx.com/support/documentation/package_specs/pq100.pdf; ComponentLink4Description: XC9500 Documents; ComponentLink4URL: http://www.xilinx.com/support/documentation/xc9500.htm
footprint PQ100_N (QFP, 100-Leads, Body 20x14mm, Pitch 0.65mm, IPC Medium Density)
footprint PQ100_L (QFP, 100-Leads, Body 20x14mm, Pitch 0.65mm, IPC High Density)
footprint PQ100_M (QFP, 100-Leads, Body 20x14mm, Pitch 0.65mm, IPC Low Density)
part A pins: 13 I/O/MC1-2 (io), 14 I/O/MC1-3 (io), 15 I/O/MC1-5 (io), 16 I/O/MC1-6 (io), 17 I/O/MC1-8 (io), 18 I/O/MC1-9 (io), 19 I/O/MC1-11 (io), 20 I/O/MC1-12 (io), 21 I/O/MC1-14 (io), 22 I/O/MC1-15 (io), 24 I/O/GCK1/MC1-17 (io)
part B pins: 1 I/O/GSR/MC2-2 (io), 3 I/O/GTS3/MC2-5 (io), 4 I/O/GTS4/MC2-6 (io), 5 I/O/GTS1/MC2-8 (io), 6 I/O/GTS2/MC2-9 (io), 8 I/O/MC2-11 (io), 9 I/O/MC2-12 (io), 10 I/O/MC2-14 (io), 11 I/O/MC2-15 (io), 12 I/O/MC2-17 (io)
part C pins: 25 I/O/GCK2/MC3-2 (io), 26 I/O/MC3-5 (io), 27 I/O/MC3-6 (io), 29 I/O/GCK3/MC3-8 (io), 30 I/O/MC3-9 (io), 31 I/O/MC3-11 (io), 32 I/O/MC3-12 (io), 34 I/O/MC3-14 (io), 35 I/O/MC3-15 (io), 36 I/O/MC3-17 (io)
part D pins: 89 I/O/MC4-2 (io), 91 I/O/MC4-5 (io), 92 I/O/MC4-6 (io), 93 I/O/MC4-8 (io), 94 I/O/MC4-9 (io), 95 I/O/MC4-11 (io), 96 I/O/MC4-12 (io), 97 I/O/MC4-14 (io), 98 I/O/MC4-15 (io), 99 I/O/MC4-17 (io)
part E pins: 37 I/O/MC5-2 (io), 38 I/O/MC5-5 (io), 39 I/O/MC5-6 (io), 41 I/O/MC5-8 (io), 42 I/O/MC5-9 (io), 43 I/O/MC5-11 (io), 44 I/O/MC5-12 (io), 45 I/O/MC5-14 (io), 48 I/O/MC5-15 (io), 51 I/O/MC5-17 (io)
part F pins: 76 I/O/MC6-2 (io), 78 I/O/MC6-5 (io), 79 I/O/MC6-6 (io), 80 I/O/MC6-8 (io), 81 I/O/MC6-9 (io), 82 I/O/MC6-11 (io), 83 I/O/MC6-12 (io), 84 I/O/MC6-14 (io), 87 I/O/MC6-15 (io), 88 I/O/MC6-17 (io)
part G pins: 52 I/O/MC7-2 (io), 54 I/O/MC7-5 (io), 55 I/O/MC7-6 (io), 56 I/O/MC7-8 (io), 57 I/O/MC7-9 (io), 58 I/O/MC7-11 (io), 60 I/O/MC7-12 (io), 61 I/O/MC7-14 (io), 62 I/O/MC7-15 (io), 63 I/O/MC7-17 (io)
part H pins: 65 I/O/MC8-2 (io), 66 I/O/MC8-5 (io), 67 I/O/MC8-6 (io), 68 I/O/MC8-8 (io), 69 I/O/MC8-9 (io), 70 I/O/MC8-11 (io), 72 I/O/MC8-12 (io), 73 I/O/MC8-14 (io), 74 I/O/MC8-15 (io), 75 I/O/MC8-17 (io)
part I pins: 47 TDI (in), 49 TMS (in), 50 TCK (in), 85 TDO (out)
part J pins: 7 VCC INT (power), 28 VCC IO (power), 40 VCC IO (power), 53 VCC IO (power), 59 VCC INT (power), 90 VCC IO (power), 100 VCC INT (power)
part K pins: 2 GND (power), 23 GND (power), 33 GND (power), 46 GND (power), 64 GND (power), 71 GND (power), 77 GND (power), 86 GND (power)
part A text: BANK 1
part B text: BANK 2
part C text: BANK 3
part D text: BANK 4
part E text: BANK 5
part F text: BANK 6
part G text: BANK 7
part H text: BANK 8

## XC95144-10PQ100I
designator U?
XC9500 5V, 144 Macrocell CPLD, 81 User I/Os, 100-Pin PQFP, Industrial Grade; DatasheetVersion: ver5.7, May-2009; PackageVersion: ver1.2, Oct-2002; PackageReference: PQ100; PackageDescription: 100-Pin Plastic Quad Flat Pack (PQ100); Code_IPC: QFP65P1720X2320-100; ComponentLink1Description: Manufacturer URL; ComponentLink1URL: http://www.xilinx.com/; ComponentLink2Description: XC95144 Datasheet; ComponentLink2URL: http://www.xilinx.com/support/documentation/data_sheets/ds067.pdf; ComponentLink3Description: PQ100 Package Drawing; ComponentLink3URL: http://www.xilinx.com/support/documentation/package_specs/pq100.pdf; ComponentLink4Description: XC9500 Documents; ComponentLink4URL: http://www.xilinx.com/support/documentation/xc9500.htm
footprint PQ100_N (QFP, 100-Leads, Body 20x14mm, Pitch 0.65mm, IPC Medium Density)
footprint PQ100_L (QFP, 100-Leads, Body 20x14mm, Pitch 0.65mm, IPC High Density)
footprint PQ100_M (QFP, 100-Leads, Body 20x14mm, Pitch 0.65mm, IPC Low Density)
part A pins: 13 I/O/MC1-2 (io), 14 I/O/MC1-3 (io), 15 I/O/MC1-5 (io), 16 I/O/MC1-6 (io), 17 I/O/MC1-8 (io), 18 I/O/MC1-9 (io), 19 I/O/MC1-11 (io), 20 I/O/MC1-12 (io), 21 I/O/MC1-14 (io), 22 I/O/MC1-15 (io), 24 I/O/GCK1/MC1-17 (io)
part B pins: 1 I/O/GSR/MC2-2 (io), 3 I/O/GTS3/MC2-5 (io), 4 I/O/GTS4/MC2-6 (io), 5 I/O/GTS1/MC2-8 (io), 6 I/O/GTS2/MC2-9 (io), 8 I/O/MC2-11 (io), 9 I/O/MC2-12 (io), 10 I/O/MC2-14 (io), 11 I/O/MC2-15 (io), 12 I/O/MC2-17 (io)
part C pins: 25 I/O/GCK2/MC3-2 (io), 26 I/O/MC3-5 (io), 27 I/O/MC3-6 (io), 29 I/O/GCK3/MC3-8 (io), 30 I/O/MC3-9 (io), 31 I/O/MC3-11 (io), 32 I/O/MC3-12 (io), 34 I/O/MC3-14 (io), 35 I/O/MC3-15 (io), 36 I/O/MC3-17 (io)
part D pins: 89 I/O/MC4-2 (io), 91 I/O/MC4-5 (io), 92 I/O/MC4-6 (io), 93 I/O/MC4-8 (io), 94 I/O/MC4-9 (io), 95 I/O/MC4-11 (io), 96 I/O/MC4-12 (io), 97 I/O/MC4-14 (io), 98 I/O/MC4-15 (io), 99 I/O/MC4-17 (io)
part E pins: 37 I/O/MC5-2 (io), 38 I/O/MC5-5 (io), 39 I/O/MC5-6 (io), 41 I/O/MC5-8 (io), 42 I/O/MC5-9 (io), 43 I/O/MC5-11 (io), 44 I/O/MC5-12 (io), 45 I/O/MC5-14 (io), 48 I/O/MC5-15 (io), 51 I/O/MC5-17 (io)
part F pins: 76 I/O/MC6-2 (io), 78 I/O/MC6-5 (io), 79 I/O/MC6-6 (io), 80 I/O/MC6-8 (io), 81 I/O/MC6-9 (io), 82 I/O/MC6-11 (io), 83 I/O/MC6-12 (io), 84 I/O/MC6-14 (io), 87 I/O/MC6-15 (io), 88 I/O/MC6-17 (io)
part G pins: 52 I/O/MC7-2 (io), 54 I/O/MC7-5 (io), 55 I/O/MC7-6 (io), 56 I/O/MC7-8 (io), 57 I/O/MC7-9 (io), 58 I/O/MC7-11 (io), 60 I/O/MC7-12 (io), 61 I/O/MC7-14 (io), 62 I/O/MC7-15 (io), 63 I/O/MC7-17 (io)
part H pins: 65 I/O/MC8-2 (io), 66 I/O/MC8-5 (io), 67 I/O/MC8-6 (io), 68 I/O/MC8-8 (io), 69 I/O/MC8-9 (io), 70 I/O/MC8-11 (io), 72 I/O/MC8-12 (io), 73 I/O/MC8-14 (io), 74 I/O/MC8-15 (io), 75 I/O/MC8-17 (io)
part I pins: 47 TDI (in), 49 TMS (in), 50 TCK (in), 85 TDO (out)
part J pins: 7 VCC INT (power), 28 VCC IO (power), 40 VCC IO (power), 53 VCC IO (power), 59 VCC INT (power), 90 VCC IO (power), 100 VCC INT (power)
part K pins: 2 GND (power), 23 GND (power), 33 GND (power), 46 GND (power), 64 GND (power), 71 GND (power), 77 GND (power), 86 GND (power)
part A text: BANK 1
part B text: BANK 2
part C text: BANK 3
part D text: BANK 4
part E text: BANK 5
part F text: BANK 6
part G text: BANK 7
part H text: BANK 8

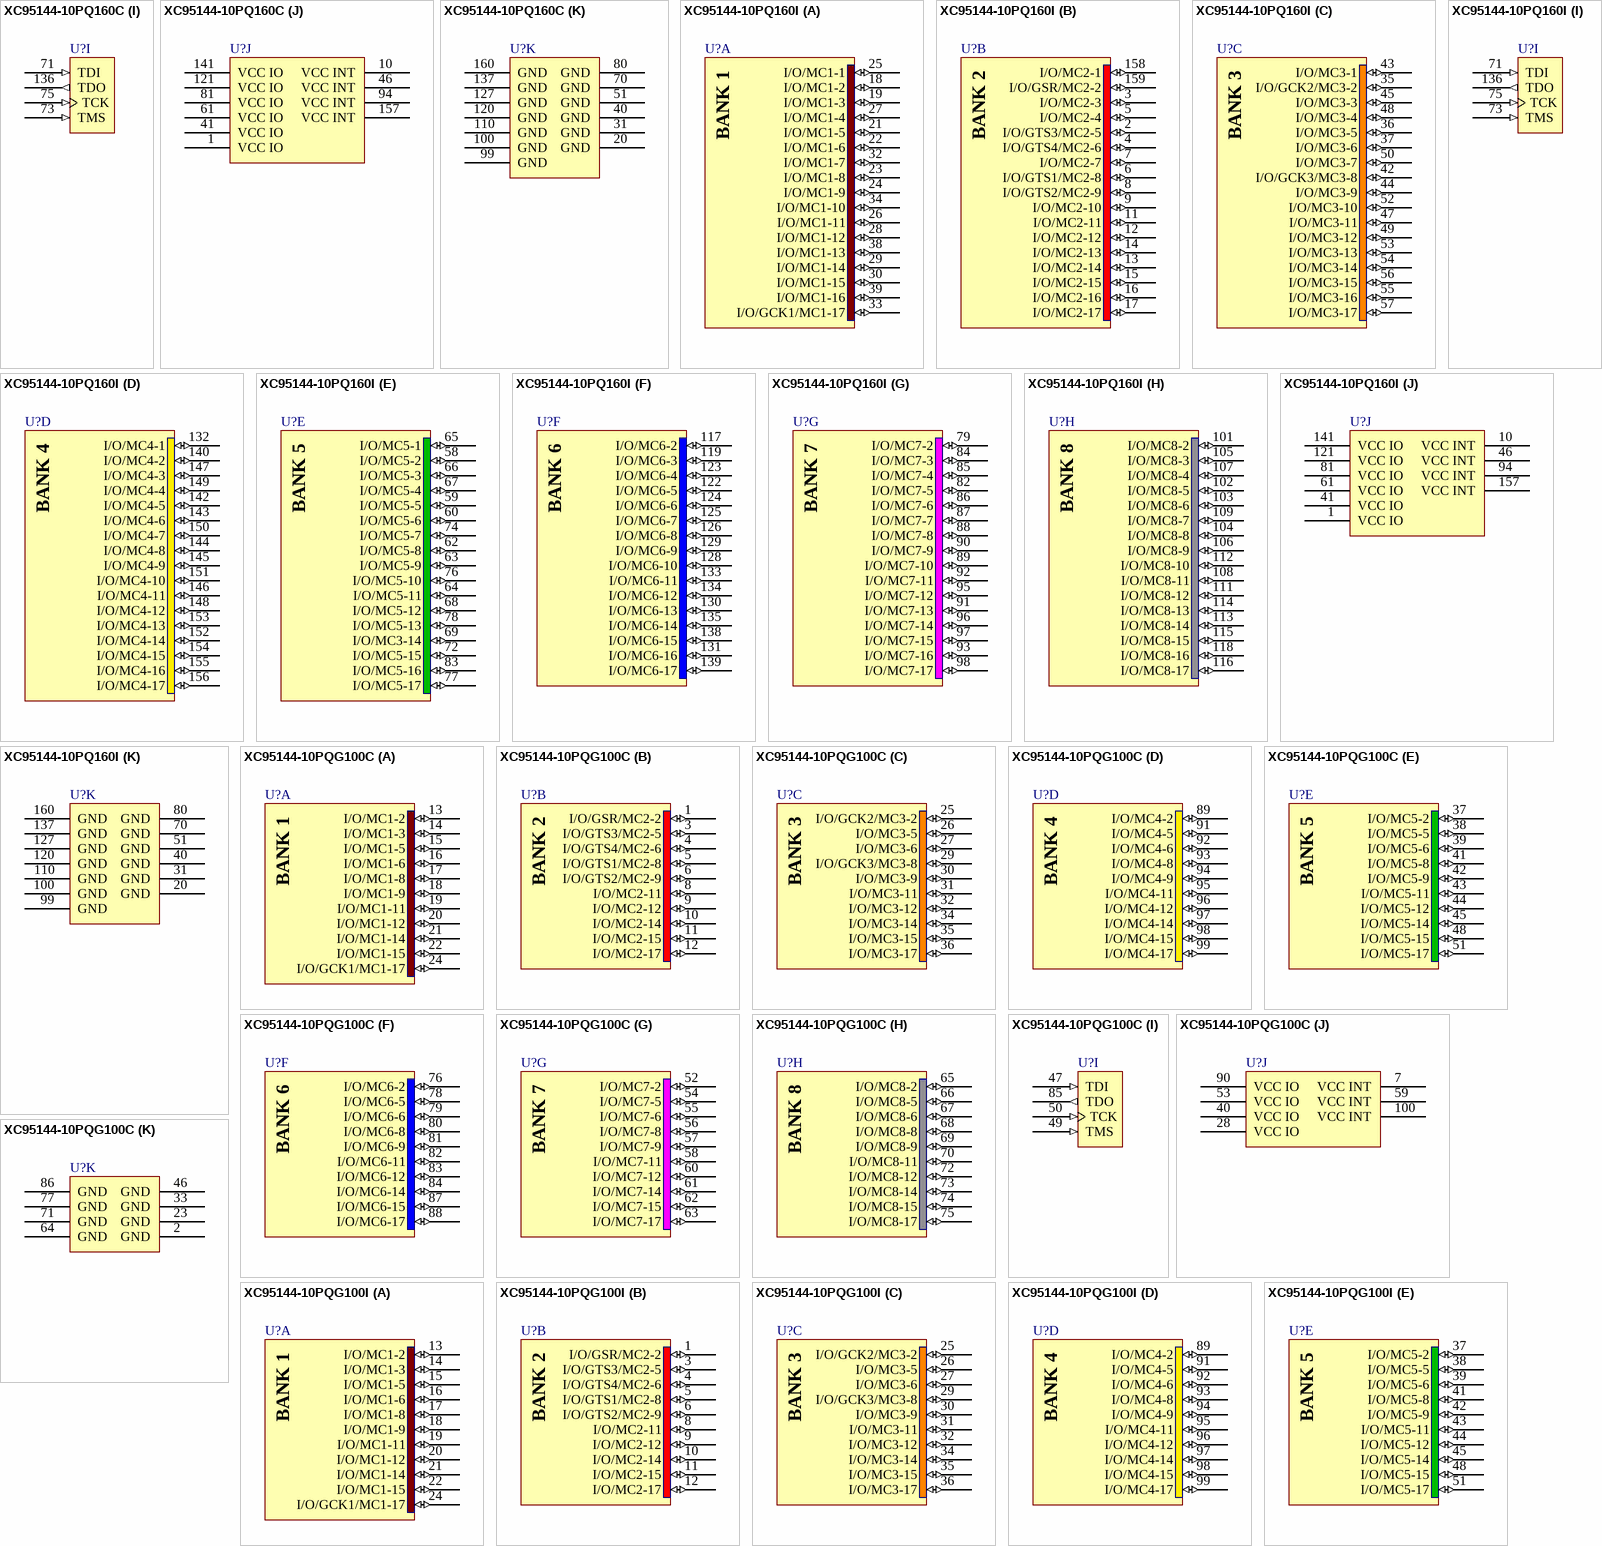
[diagram p44: symbols XC95144-10PQ160C to XC95144-10PQG100I]

## XC95144-10PQ160C
designator U?
XC9500 5V, 144 Macrocell CPLD, 133 User I/Os, 160-Pin PQFP, Commercial Grade; DatasheetVersion: ver5.7, May-2009; PackageVersion: ver1.2, Jun-2004; PackageReference: PQ160; PackageDescription: 160-Pin Plastic Quad Flat Pack (PQ160); Code_JEDEC: MS-022-DD1; Code_IPC: QFP65P3120X3120-160; ComponentLink1Description: Manufacturer URL; ComponentLink1URL: http://www.xilinx.com/; ComponentLink2Description: XC95144 Datasheet; ComponentLink2URL: http://www.xilinx.com/support/documentation/data_sheets/ds067.pdf; ComponentLink3Description: PQ160 Package Drawing; ComponentLink3URL: http://www.xilinx.com/support/documentation/package_specs/pq160.pdf; ComponentLink4Description: XC9500 Documents; ComponentLink4URL: http://www.xilinx.com/support/documentation/xc9500.htm
footprint PQ160_N (QFP, 160-Leads, Body 28x28mm, Pitch 0.65mm, IPC Medium Density)
footprint PQ160_L (QFP, 160-Leads, Body 28x28mm, Pitch 0.65mm, IPC High Density)
footprint PQ160_M (QFP, 160-Leads, Body 28x28mm, Pitch 0.65mm, IPC Low Density)
part A pins: 18 I/O/MC1-2 (io), 19 I/O/MC1-3 (io), 21 I/O/MC1-5 (io), 22 I/O/MC1-6 (io), 23 I/O/MC1-8 (io), 24 I/O/MC1-9 (io), 25 I/O/MC1-1 (io), 26 I/O/MC1-11 (io), 27 I/O/MC1-4 (io), 28 I/O/MC1-12 (io), 29 I/O/MC1-14 (io), 30 I/O/MC1-15 (io), 32 I/O/MC1-7 (io), 33 I/O/GCK1/MC1-17 (io), 34 I/O/MC1-10 (io), 38 I/O/MC1-13 (io), 39 I/O/MC1-16 (io)
part B pins: 2 I/O/GTS3/MC2-5 (io), 3 I/O/MC2-3 (io), 4 I/O/GTS4/MC2-6 (io), 5 I/O/MC2-4 (io), 6 I/O/GTS1/MC2-8 (io), 7 I/O/MC2-7 (io), 8 I/O/GTS2/MC2-9 (io), 9 I/O/MC2-10 (io), 11 I/O/MC2-11 (io), 12 I/O/MC2-12 (io), 13 I/O/MC2-14 (io), 14 I/O/MC2-13 (io), 15 I/O/MC2-15 (io), 16 I/O/MC2-16 (io), 17 I/O/MC2-17 (io), 158 I/O/MC2-1 (io), 159 I/O/GSR/MC2-2 (io)
part C pins: 35 I/O/GCK2/MC3-2 (io), 36 I/O/MC3-5 (io), 37 I/O/MC3-6 (io), 42 I/O/GCK3/MC3-8 (io), 43 I/O/MC3-1 (io), 44 I/O/MC3-9 (io), 45 I/O/MC3-3 (io), 47 I/O/MC3-11 (io), 48 I/O/MC3-4 (io), 49 I/O/MC3-12 (io), 50 I/O/MC3-7 (io), 52 I/O/MC3-10 (io), 53 I/O/MC3-13 (io), 54 I/O/MC3-14 (io), 55 I/O/MC3-16 (io), 56 I/O/MC3-15 (io), 57 I/O/MC3-17 (io)
part D pins: 132 I/O/MC4-1 (io), 140 I/O/MC4-2 (io), 142 I/O/MC4-5 (io), 143 I/O/MC4-6 (io), 144 I/O/MC4-8 (io), 145 I/O/MC4-9 (io), 146 I/O/MC4-11 (io), 147 I/O/MC4-3 (io), 148 I/O/MC4-12 (io), 149 I/O/MC4-4 (io), 150 I/O/MC4-7 (io), 151 I/O/MC4-10 (io), 152 I/O/MC4-14 (io), 153 I/O/MC4-13 (io), 154 I/O/MC4-15 (io), 155 I/O/MC4-16 (io), 156 I/O/MC4-17 (io)
part E pins: 58 I/O/MC5-2 (io), 59 I/O/MC5-5 (io), 60 I/O/MC5-6 (io), 62 I/O/MC5-8 (io), 63 I/O/MC5-9 (io), 64 I/O/MC5-11 (io), 65 I/O/MC5-1 (io), 66 I/O/MC5-3 (io), 67 I/O/MC5-4 (io), 68 I/O/MC5-12 (io), 69 I/O/MC3-14 (io), 72 I/O/MC5-15 (io), 74 I/O/MC5-7 (io), 76 I/O/MC5-10 (io), 77 I/O/MC5-17 (io), 78 I/O/MC5-13 (io), 83 I/O/MC5-16 (io)
part F pins: 117 I/O/MC6-2 (io), 119 I/O/MC6-3 (io), 122 I/O/MC6-5 (io), 123 I/O/MC6-4 (io), 124 I/O/MC6-6 (io), 125 I/O/MC6-7 (io), 126 I/O/MC6-8 (io), 128 I/O/MC6-10 (io), 129 I/O/MC6-9 (io), 130 I/O/MC6-13 (io), 131 I/O/MC6-16 (io), 133 I/O/MC6-11 (io), 134 I/O/MC6-12 (io), 135 I/O/MC6-14 (io), 138 I/O/MC6-15 (io), 139 I/O/MC6-17 (io)
part G pins: 79 I/O/MC7-2 (io), 82 I/O/MC7-5 (io), 84 I/O/MC7-3 (io), 85 I/O/MC7-4 (io), 86 I/O/MC7-6 (io), 87 I/O/MC7-7 (io), 88 I/O/MC7-8 (io), 89 I/O/MC7-10 (io), 90 I/O/MC7-9 (io), 91 I/O/MC7-13 (io), 92 I/O/MC7-11 (io), 93 I/O/MC7-16 (io), 95 I/O/MC7-12 (io), 96 I/O/MC7-14 (io), 97 I/O/MC7-15 (io), 98 I/O/MC7-17 (io)
part H pins: 101 I/O/MC8-2 (io), 102 I/O/MC8-5 (io), 103 I/O/MC8-6 (io), 104 I/O/MC8-8 (io), 105 I/O/MC8-3 (io), 106 I/O/MC8-9 (io), 107 I/O/MC8-4 (io), 108 I/O/MC8-11 (io), 109 I/O/MC8-7 (io), 111 I/O/MC8-12 (io), 112 I/O/MC8-10 (io), 113 I/O/MC8-14 (io), 114 I/O/MC8-13 (io), 115 I/O/MC8-15 (io), 116 I/O/MC8-17 (io), 118 I/O/MC8-16 (io)
part I pins: 71 TDI (in), 73 TMS (in), 75 TCK (in), 136 TDO (out)
part J pins: 1 VCC IO (power), 10 VCC INT (power), 41 VCC IO (power), 46 VCC INT (power), 61 VCC IO (power), 81 VCC IO (power), 94 VCC INT (power), 121 VCC IO (power), 141 VCC IO (power), 157 VCC INT (power)
part K pins: 20 GND (power), 31 GND (power), 40 GND (power), 51 GND (power), 70 GND (power), 80 GND (power), 99 GND (power), 100 GND (power), 110 GND (power), 120 GND (power), 127 GND (power), 137 GND (power), 160 GND (power)
part A text: BANK 1
part B text: BANK 2
part C text: BANK 3
part D text: BANK 4
part E text: BANK 5
part F text: BANK 6
part G text: BANK 7
part H text: BANK 8

## XC95144-10PQ160I
designator U?
XC9500 5V, 144 Macrocell CPLD, 133 User I/Os, 160-Pin PQFP, Industrial Grade; DatasheetVersion: ver5.7, May-2009; PackageVersion: ver1.2, Jun-2004; PackageReference: PQ160; PackageDescription: 160-Pin Plastic Quad Flat Pack (PQ160); Code_JEDEC: MS-022-DD1; Code_IPC: QFP65P3120X3120-160; ComponentLink1Description: Manufacturer URL; ComponentLink1URL: http://www.xilinx.com/; ComponentLink2Description: XC95144 Datasheet; ComponentLink2URL: http://www.xilinx.com/support/documentation/data_sheets/ds067.pdf; ComponentLink3Description: PQ160 Package Drawing; ComponentLink3URL: http://www.xilinx.com/support/documentation/package_specs/pq160.pdf; ComponentLink4Description: XC9500 Documents; ComponentLink4URL: http://www.xilinx.com/support/documentation/xc9500.htm
footprint PQ160_N (QFP, 160-Leads, Body 28x28mm, Pitch 0.65mm, IPC Medium Density)
footprint PQ160_L (QFP, 160-Leads, Body 28x28mm, Pitch 0.65mm, IPC High Density)
footprint PQ160_M (QFP, 160-Leads, Body 28x28mm, Pitch 0.65mm, IPC Low Density)
part A pins: 18 I/O/MC1-2 (io), 19 I/O/MC1-3 (io), 21 I/O/MC1-5 (io), 22 I/O/MC1-6 (io), 23 I/O/MC1-8 (io), 24 I/O/MC1-9 (io), 25 I/O/MC1-1 (io), 26 I/O/MC1-11 (io), 27 I/O/MC1-4 (io), 28 I/O/MC1-12 (io), 29 I/O/MC1-14 (io), 30 I/O/MC1-15 (io), 32 I/O/MC1-7 (io), 33 I/O/GCK1/MC1-17 (io), 34 I/O/MC1-10 (io), 38 I/O/MC1-13 (io), 39 I/O/MC1-16 (io)
part B pins: 2 I/O/GTS3/MC2-5 (io), 3 I/O/MC2-3 (io), 4 I/O/GTS4/MC2-6 (io), 5 I/O/MC2-4 (io), 6 I/O/GTS1/MC2-8 (io), 7 I/O/MC2-7 (io), 8 I/O/GTS2/MC2-9 (io), 9 I/O/MC2-10 (io), 11 I/O/MC2-11 (io), 12 I/O/MC2-12 (io), 13 I/O/MC2-14 (io), 14 I/O/MC2-13 (io), 15 I/O/MC2-15 (io), 16 I/O/MC2-16 (io), 17 I/O/MC2-17 (io), 158 I/O/MC2-1 (io), 159 I/O/GSR/MC2-2 (io)
part C pins: 35 I/O/GCK2/MC3-2 (io), 36 I/O/MC3-5 (io), 37 I/O/MC3-6 (io), 42 I/O/GCK3/MC3-8 (io), 43 I/O/MC3-1 (io), 44 I/O/MC3-9 (io), 45 I/O/MC3-3 (io), 47 I/O/MC3-11 (io), 48 I/O/MC3-4 (io), 49 I/O/MC3-12 (io), 50 I/O/MC3-7 (io), 52 I/O/MC3-10 (io), 53 I/O/MC3-13 (io), 54 I/O/MC3-14 (io), 55 I/O/MC3-16 (io), 56 I/O/MC3-15 (io), 57 I/O/MC3-17 (io)
part D pins: 132 I/O/MC4-1 (io), 140 I/O/MC4-2 (io), 142 I/O/MC4-5 (io), 143 I/O/MC4-6 (io), 144 I/O/MC4-8 (io), 145 I/O/MC4-9 (io), 146 I/O/MC4-11 (io), 147 I/O/MC4-3 (io), 148 I/O/MC4-12 (io), 149 I/O/MC4-4 (io), 150 I/O/MC4-7 (io), 151 I/O/MC4-10 (io), 152 I/O/MC4-14 (io), 153 I/O/MC4-13 (io), 154 I/O/MC4-15 (io), 155 I/O/MC4-16 (io), 156 I/O/MC4-17 (io)
part E pins: 58 I/O/MC5-2 (io), 59 I/O/MC5-5 (io), 60 I/O/MC5-6 (io), 62 I/O/MC5-8 (io), 63 I/O/MC5-9 (io), 64 I/O/MC5-11 (io), 65 I/O/MC5-1 (io), 66 I/O/MC5-3 (io), 67 I/O/MC5-4 (io), 68 I/O/MC5-12 (io), 69 I/O/MC3-14 (io), 72 I/O/MC5-15 (io), 74 I/O/MC5-7 (io), 76 I/O/MC5-10 (io), 77 I/O/MC5-17 (io), 78 I/O/MC5-13 (io), 83 I/O/MC5-16 (io)
part F pins: 117 I/O/MC6-2 (io), 119 I/O/MC6-3 (io), 122 I/O/MC6-5 (io), 123 I/O/MC6-4 (io), 124 I/O/MC6-6 (io), 125 I/O/MC6-7 (io), 126 I/O/MC6-8 (io), 128 I/O/MC6-10 (io), 129 I/O/MC6-9 (io), 130 I/O/MC6-13 (io), 131 I/O/MC6-16 (io), 133 I/O/MC6-11 (io), 134 I/O/MC6-12 (io), 135 I/O/MC6-14 (io), 138 I/O/MC6-15 (io), 139 I/O/MC6-17 (io)
part G pins: 79 I/O/MC7-2 (io), 82 I/O/MC7-5 (io), 84 I/O/MC7-3 (io), 85 I/O/MC7-4 (io), 86 I/O/MC7-6 (io), 87 I/O/MC7-7 (io), 88 I/O/MC7-8 (io), 89 I/O/MC7-10 (io), 90 I/O/MC7-9 (io), 91 I/O/MC7-13 (io), 92 I/O/MC7-11 (io), 93 I/O/MC7-16 (io), 95 I/O/MC7-12 (io), 96 I/O/MC7-14 (io), 97 I/O/MC7-15 (io), 98 I/O/MC7-17 (io)
part H pins: 101 I/O/MC8-2 (io), 102 I/O/MC8-5 (io), 103 I/O/MC8-6 (io), 104 I/O/MC8-8 (io), 105 I/O/MC8-3 (io), 106 I/O/MC8-9 (io), 107 I/O/MC8-4 (io), 108 I/O/MC8-11 (io), 109 I/O/MC8-7 (io), 111 I/O/MC8-12 (io), 112 I/O/MC8-10 (io), 113 I/O/MC8-14 (io), 114 I/O/MC8-13 (io), 115 I/O/MC8-15 (io), 116 I/O/MC8-17 (io), 118 I/O/MC8-16 (io)
part I pins: 71 TDI (in), 73 TMS (in), 75 TCK (in), 136 TDO (out)
part J pins: 1 VCC IO (power), 10 VCC INT (power), 41 VCC IO (power), 46 VCC INT (power), 61 VCC IO (power), 81 VCC IO (power), 94 VCC INT (power), 121 VCC IO (power), 141 VCC IO (power), 157 VCC INT (power)
part K pins: 20 GND (power), 31 GND (power), 40 GND (power), 51 GND (power), 70 GND (power), 80 GND (power), 99 GND (power), 100 GND (power), 110 GND (power), 120 GND (power), 127 GND (power), 137 GND (power), 160 GND (power)
part A text: BANK 1
part B text: BANK 2
part C text: BANK 3
part D text: BANK 4
part E text: BANK 5
part F text: BANK 6
part G text: BANK 7
part H text: BANK 8

## XC95144-10PQG100C
designator U?
XC9500 5V, 144 Macrocell CPLD, 81 User I/Os, 100-Pin PQFP, Commercial Grade, Pb-Free; DatasheetVersion: ver5.7, May-2009; PackageVersion: ver1.2, Oct-2002; PackageReference: PQG100; PackageDescription: 100-Pin Plastic Quad Flat Pack (PQG100) - Pb-Free; Code_IPC: QFP65P1720X2320-100; ComponentLink1Description: Manufacturer URL; ComponentLink1URL: http://www.xilinx.com/; ComponentLink2Description: XC95144 Datasheet; ComponentLink2URL: http://www.xilinx.com/support/documentation/data_sheets/ds067.pdf; ComponentLink3Description: PQG100 Package Drawing; ComponentLink3URL: http://www.xilinx.com/support/documentation/package_specs/pq100.pdf; ComponentLink4Description: XC9500 Documents; ComponentLink4URL: http://www.xilinx.com/support/documentation/xc9500.htm
footprint PQG100_N (QFP, 100-Leads, Body 20x14mm, Pitch 0.65mm, IPC Medium Density)
footprint PQG100_L (QFP, 100-Leads, Body 20x14mm, Pitch 0.65mm, IPC High Density)
footprint PQG100_M (QFP, 100-Leads, Body 20x14mm, Pitch 0.65mm, IPC Low Density)
part A pins: 13 I/O/MC1-2 (io), 14 I/O/MC1-3 (io), 15 I/O/MC1-5 (io), 16 I/O/MC1-6 (io), 17 I/O/MC1-8 (io), 18 I/O/MC1-9 (io), 19 I/O/MC1-11 (io), 20 I/O/MC1-12 (io), 21 I/O/MC1-14 (io), 22 I/O/MC1-15 (io), 24 I/O/GCK1/MC1-17 (io)
part B pins: 1 I/O/GSR/MC2-2 (io), 3 I/O/GTS3/MC2-5 (io), 4 I/O/GTS4/MC2-6 (io), 5 I/O/GTS1/MC2-8 (io), 6 I/O/GTS2/MC2-9 (io), 8 I/O/MC2-11 (io), 9 I/O/MC2-12 (io), 10 I/O/MC2-14 (io), 11 I/O/MC2-15 (io), 12 I/O/MC2-17 (io)
part C pins: 25 I/O/GCK2/MC3-2 (io), 26 I/O/MC3-5 (io), 27 I/O/MC3-6 (io), 29 I/O/GCK3/MC3-8 (io), 30 I/O/MC3-9 (io), 31 I/O/MC3-11 (io), 32 I/O/MC3-12 (io), 34 I/O/MC3-14 (io), 35 I/O/MC3-15 (io), 36 I/O/MC3-17 (io)
part D pins: 89 I/O/MC4-2 (io), 91 I/O/MC4-5 (io), 92 I/O/MC4-6 (io), 93 I/O/MC4-8 (io), 94 I/O/MC4-9 (io), 95 I/O/MC4-11 (io), 96 I/O/MC4-12 (io), 97 I/O/MC4-14 (io), 98 I/O/MC4-15 (io), 99 I/O/MC4-17 (io)
part E pins: 37 I/O/MC5-2 (io), 38 I/O/MC5-5 (io), 39 I/O/MC5-6 (io), 41 I/O/MC5-8 (io), 42 I/O/MC5-9 (io), 43 I/O/MC5-11 (io), 44 I/O/MC5-12 (io), 45 I/O/MC5-14 (io), 48 I/O/MC5-15 (io), 51 I/O/MC5-17 (io)
part F pins: 76 I/O/MC6-2 (io), 78 I/O/MC6-5 (io), 79 I/O/MC6-6 (io), 80 I/O/MC6-8 (io), 81 I/O/MC6-9 (io), 82 I/O/MC6-11 (io), 83 I/O/MC6-12 (io), 84 I/O/MC6-14 (io), 87 I/O/MC6-15 (io), 88 I/O/MC6-17 (io)
part G pins: 52 I/O/MC7-2 (io), 54 I/O/MC7-5 (io), 55 I/O/MC7-6 (io), 56 I/O/MC7-8 (io), 57 I/O/MC7-9 (io), 58 I/O/MC7-11 (io), 60 I/O/MC7-12 (io), 61 I/O/MC7-14 (io), 62 I/O/MC7-15 (io), 63 I/O/MC7-17 (io)
part H pins: 65 I/O/MC8-2 (io), 66 I/O/MC8-5 (io), 67 I/O/MC8-6 (io), 68 I/O/MC8-8 (io), 69 I/O/MC8-9 (io), 70 I/O/MC8-11 (io), 72 I/O/MC8-12 (io), 73 I/O/MC8-14 (io), 74 I/O/MC8-15 (io), 75 I/O/MC8-17 (io)
part I pins: 47 TDI (in), 49 TMS (in), 50 TCK (in), 85 TDO (out)
part J pins: 7 VCC INT (power), 28 VCC IO (power), 40 VCC IO (power), 53 VCC IO (power), 59 VCC INT (power), 90 VCC IO (power), 100 VCC INT (power)
part K pins: 2 GND (power), 23 GND (power), 33 GND (power), 46 GND (power), 64 GND (power), 71 GND (power), 77 GND (power), 86 GND (power)
part A text: BANK 1
part B text: BANK 2
part C text: BANK 3
part D text: BANK 4
part E text: BANK 5
part F text: BANK 6
part G text: BANK 7
part H text: BANK 8

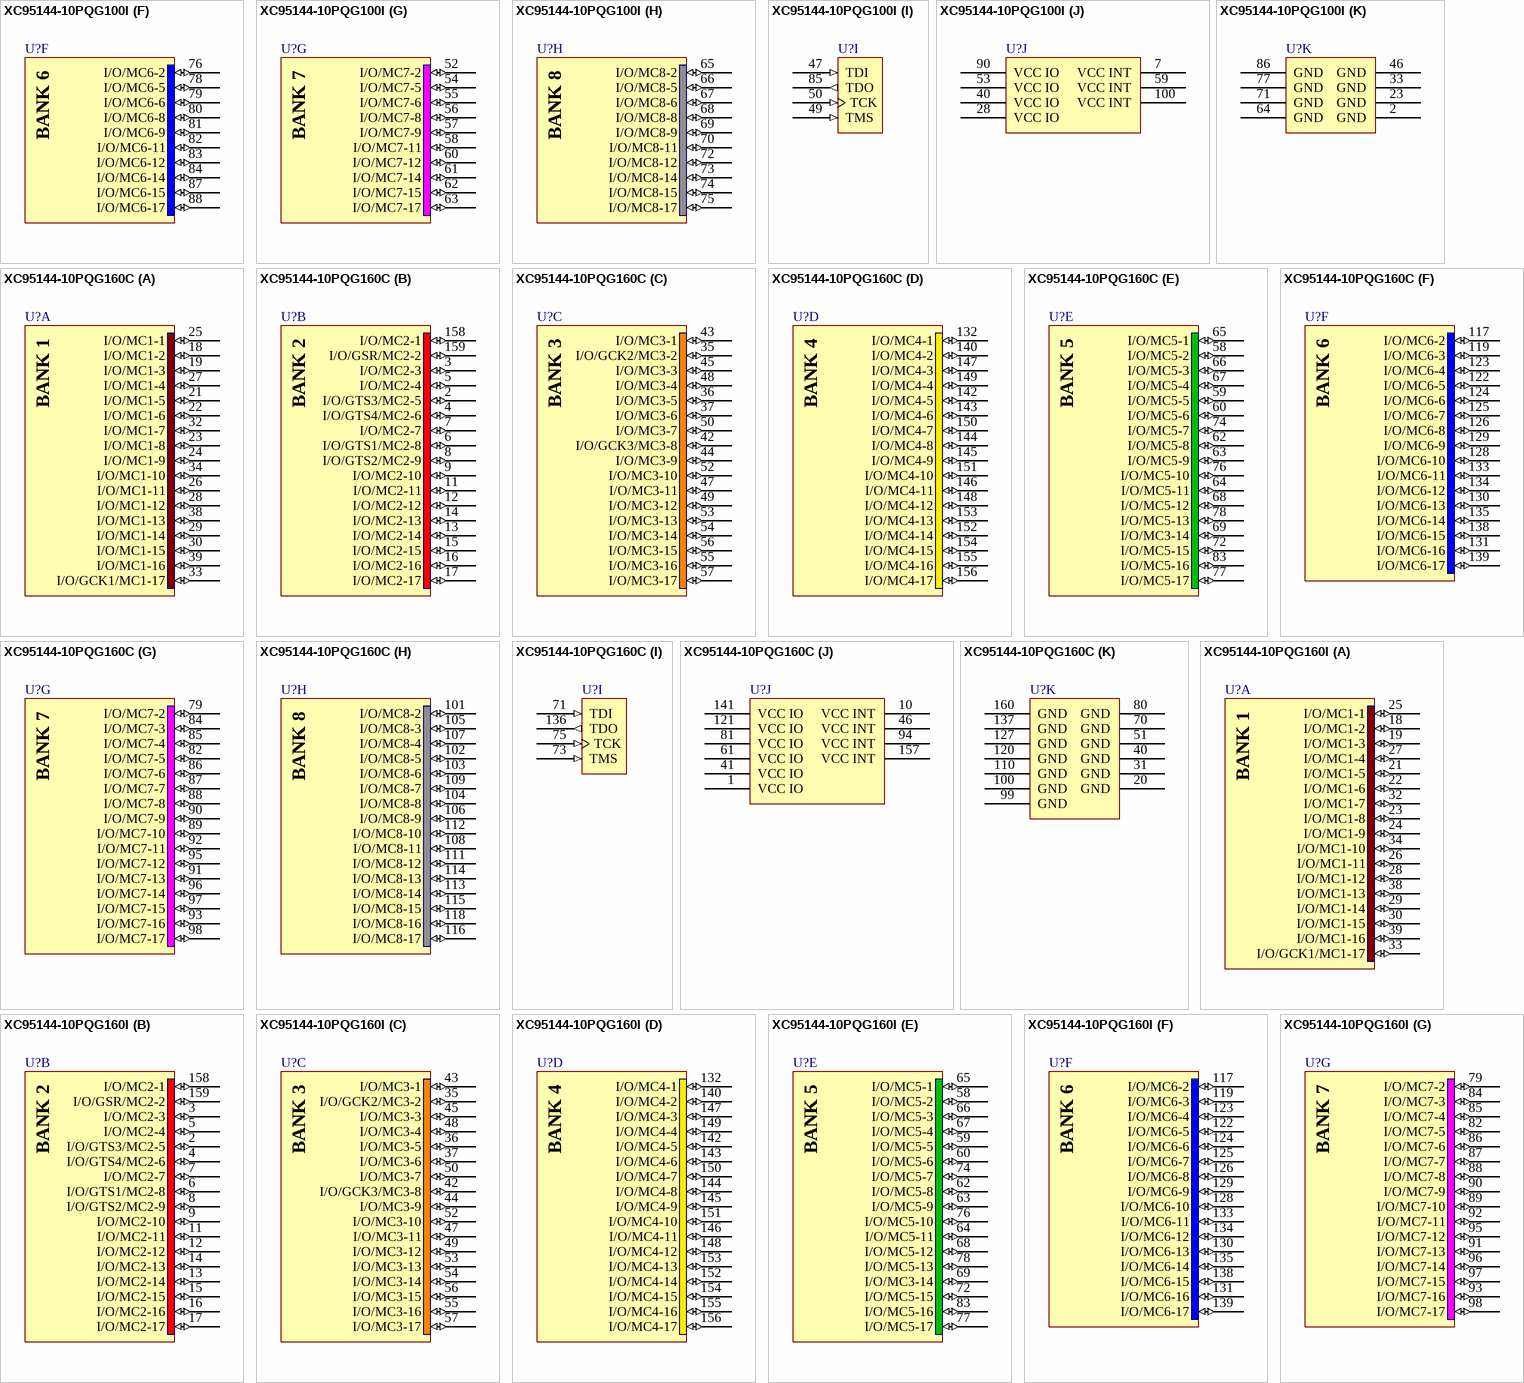
[diagram p45: symbols XC95144-10PQG100I to XC95144-10PQG160I]

## XC95144-10PQG100I
designator U?
XC9500 5V, 144 Macrocell CPLD, 81 User I/Os, 100-Pin PQFP, Industrial Grade, Pb-Free; DatasheetVersion: ver5.7, May-2009; PackageVersion: ver1.2, Oct-2002; PackageReference: PQG100; PackageDescription: 100-Pin Plastic Quad Flat Pack (PQG100) - Pb-Free; Code_IPC: QFP65P1720X2320-100; ComponentLink1Description: Manufacturer URL; ComponentLink1URL: http://www.xilinx.com/; ComponentLink2Description: XC95144 Datasheet; ComponentLink2URL: http://www.xilinx.com/support/documentation/data_sheets/ds067.pdf; ComponentLink3Description: PQG100 Package Drawing; ComponentLink3URL: http://www.xilinx.com/support/documentation/package_specs/pq100.pdf; ComponentLink4Description: XC9500 Documents; ComponentLink4URL: http://www.xilinx.com/support/documentation/xc9500.htm
footprint PQG100_N (QFP, 100-Leads, Body 20x14mm, Pitch 0.65mm, IPC Medium Density)
footprint PQG100_L (QFP, 100-Leads, Body 20x14mm, Pitch 0.65mm, IPC High Density)
footprint PQG100_M (QFP, 100-Leads, Body 20x14mm, Pitch 0.65mm, IPC Low Density)
part A pins: 13 I/O/MC1-2 (io), 14 I/O/MC1-3 (io), 15 I/O/MC1-5 (io), 16 I/O/MC1-6 (io), 17 I/O/MC1-8 (io), 18 I/O/MC1-9 (io), 19 I/O/MC1-11 (io), 20 I/O/MC1-12 (io), 21 I/O/MC1-14 (io), 22 I/O/MC1-15 (io), 24 I/O/GCK1/MC1-17 (io)
part B pins: 1 I/O/GSR/MC2-2 (io), 3 I/O/GTS3/MC2-5 (io), 4 I/O/GTS4/MC2-6 (io), 5 I/O/GTS1/MC2-8 (io), 6 I/O/GTS2/MC2-9 (io), 8 I/O/MC2-11 (io), 9 I/O/MC2-12 (io), 10 I/O/MC2-14 (io), 11 I/O/MC2-15 (io), 12 I/O/MC2-17 (io)
part C pins: 25 I/O/GCK2/MC3-2 (io), 26 I/O/MC3-5 (io), 27 I/O/MC3-6 (io), 29 I/O/GCK3/MC3-8 (io), 30 I/O/MC3-9 (io), 31 I/O/MC3-11 (io), 32 I/O/MC3-12 (io), 34 I/O/MC3-14 (io), 35 I/O/MC3-15 (io), 36 I/O/MC3-17 (io)
part D pins: 89 I/O/MC4-2 (io), 91 I/O/MC4-5 (io), 92 I/O/MC4-6 (io), 93 I/O/MC4-8 (io), 94 I/O/MC4-9 (io), 95 I/O/MC4-11 (io), 96 I/O/MC4-12 (io), 97 I/O/MC4-14 (io), 98 I/O/MC4-15 (io), 99 I/O/MC4-17 (io)
part E pins: 37 I/O/MC5-2 (io), 38 I/O/MC5-5 (io), 39 I/O/MC5-6 (io), 41 I/O/MC5-8 (io), 42 I/O/MC5-9 (io), 43 I/O/MC5-11 (io), 44 I/O/MC5-12 (io), 45 I/O/MC5-14 (io), 48 I/O/MC5-15 (io), 51 I/O/MC5-17 (io)
part F pins: 76 I/O/MC6-2 (io), 78 I/O/MC6-5 (io), 79 I/O/MC6-6 (io), 80 I/O/MC6-8 (io), 81 I/O/MC6-9 (io), 82 I/O/MC6-11 (io), 83 I/O/MC6-12 (io), 84 I/O/MC6-14 (io), 87 I/O/MC6-15 (io), 88 I/O/MC6-17 (io)
part G pins: 52 I/O/MC7-2 (io), 54 I/O/MC7-5 (io), 55 I/O/MC7-6 (io), 56 I/O/MC7-8 (io), 57 I/O/MC7-9 (io), 58 I/O/MC7-11 (io), 60 I/O/MC7-12 (io), 61 I/O/MC7-14 (io), 62 I/O/MC7-15 (io), 63 I/O/MC7-17 (io)
part H pins: 65 I/O/MC8-2 (io), 66 I/O/MC8-5 (io), 67 I/O/MC8-6 (io), 68 I/O/MC8-8 (io), 69 I/O/MC8-9 (io), 70 I/O/MC8-11 (io), 72 I/O/MC8-12 (io), 73 I/O/MC8-14 (io), 74 I/O/MC8-15 (io), 75 I/O/MC8-17 (io)
part I pins: 47 TDI (in), 49 TMS (in), 50 TCK (in), 85 TDO (out)
part J pins: 7 VCC INT (power), 28 VCC IO (power), 40 VCC IO (power), 53 VCC IO (power), 59 VCC INT (power), 90 VCC IO (power), 100 VCC INT (power)
part K pins: 2 GND (power), 23 GND (power), 33 GND (power), 46 GND (power), 64 GND (power), 71 GND (power), 77 GND (power), 86 GND (power)
part A text: BANK 1
part B text: BANK 2
part C text: BANK 3
part D text: BANK 4
part E text: BANK 5
part F text: BANK 6
part G text: BANK 7
part H text: BANK 8

## XC95144-10PQG160C
designator U?
XC9500 5V, 144 Macrocell CPLD, 133 User I/Os, 160-Pin PQFP, Commercial Grade, Pb-Free; DatasheetVersion: ver5.7, May-2009; PackageVersion: ver1.2, Jun-2004; PackageReference: PQG160; PackageDescription: 160-Pin Plastic Quad Flat Pack (PQG160) - Pb-Free; Code_JEDEC: MS-022-DD1; Code_IPC: QFP65P3120X3120-160; ComponentLink1Description: Manufacturer URL; ComponentLink1URL: http://www.xilinx.com/; ComponentLink2Description: XC95144 Datasheet; ComponentLink2URL: http://www.xilinx.com/support/documentation/data_sheets/ds067.pdf; ComponentLink3Description: PQG160 Package Drawing; ComponentLink3URL: http://www.xilinx.com/support/documentation/package_specs/pq160.pdf; ComponentLink4Description: XC9500 Documents; ComponentLink4URL: http://www.xilinx.com/support/documentation/xc9500.htm
footprint PQG160_N (QFP, 160-Leads, Body 28x28mm, Pitch 0.65mm, IPC Medium Density)
footprint PQG160_L (QFP, 160-Leads, Body 28x28mm, Pitch 0.65mm, IPC High Density)
footprint PQG160_M (QFP, 160-Leads, Body 28x28mm, Pitch 0.65mm, IPC Low Density)
part A pins: 18 I/O/MC1-2 (io), 19 I/O/MC1-3 (io), 21 I/O/MC1-5 (io), 22 I/O/MC1-6 (io), 23 I/O/MC1-8 (io), 24 I/O/MC1-9 (io), 25 I/O/MC1-1 (io), 26 I/O/MC1-11 (io), 27 I/O/MC1-4 (io), 28 I/O/MC1-12 (io), 29 I/O/MC1-14 (io), 30 I/O/MC1-15 (io), 32 I/O/MC1-7 (io), 33 I/O/GCK1/MC1-17 (io), 34 I/O/MC1-10 (io), 38 I/O/MC1-13 (io), 39 I/O/MC1-16 (io)
part B pins: 2 I/O/GTS3/MC2-5 (io), 3 I/O/MC2-3 (io), 4 I/O/GTS4/MC2-6 (io), 5 I/O/MC2-4 (io), 6 I/O/GTS1/MC2-8 (io), 7 I/O/MC2-7 (io), 8 I/O/GTS2/MC2-9 (io), 9 I/O/MC2-10 (io), 11 I/O/MC2-11 (io), 12 I/O/MC2-12 (io), 13 I/O/MC2-14 (io), 14 I/O/MC2-13 (io), 15 I/O/MC2-15 (io), 16 I/O/MC2-16 (io), 17 I/O/MC2-17 (io), 158 I/O/MC2-1 (io), 159 I/O/GSR/MC2-2 (io)
part C pins: 35 I/O/GCK2/MC3-2 (io), 36 I/O/MC3-5 (io), 37 I/O/MC3-6 (io), 42 I/O/GCK3/MC3-8 (io), 43 I/O/MC3-1 (io), 44 I/O/MC3-9 (io), 45 I/O/MC3-3 (io), 47 I/O/MC3-11 (io), 48 I/O/MC3-4 (io), 49 I/O/MC3-12 (io), 50 I/O/MC3-7 (io), 52 I/O/MC3-10 (io), 53 I/O/MC3-13 (io), 54 I/O/MC3-14 (io), 55 I/O/MC3-16 (io), 56 I/O/MC3-15 (io), 57 I/O/MC3-17 (io)
part D pins: 132 I/O/MC4-1 (io), 140 I/O/MC4-2 (io), 142 I/O/MC4-5 (io), 143 I/O/MC4-6 (io), 144 I/O/MC4-8 (io), 145 I/O/MC4-9 (io), 146 I/O/MC4-11 (io), 147 I/O/MC4-3 (io), 148 I/O/MC4-12 (io), 149 I/O/MC4-4 (io), 150 I/O/MC4-7 (io), 151 I/O/MC4-10 (io), 152 I/O/MC4-14 (io), 153 I/O/MC4-13 (io), 154 I/O/MC4-15 (io), 155 I/O/MC4-16 (io), 156 I/O/MC4-17 (io)
part E pins: 58 I/O/MC5-2 (io), 59 I/O/MC5-5 (io), 60 I/O/MC5-6 (io), 62 I/O/MC5-8 (io), 63 I/O/MC5-9 (io), 64 I/O/MC5-11 (io), 65 I/O/MC5-1 (io), 66 I/O/MC5-3 (io), 67 I/O/MC5-4 (io), 68 I/O/MC5-12 (io), 69 I/O/MC3-14 (io), 72 I/O/MC5-15 (io), 74 I/O/MC5-7 (io), 76 I/O/MC5-10 (io), 77 I/O/MC5-17 (io), 78 I/O/MC5-13 (io), 83 I/O/MC5-16 (io)
part F pins: 117 I/O/MC6-2 (io), 119 I/O/MC6-3 (io), 122 I/O/MC6-5 (io), 123 I/O/MC6-4 (io), 124 I/O/MC6-6 (io), 125 I/O/MC6-7 (io), 126 I/O/MC6-8 (io), 128 I/O/MC6-10 (io), 129 I/O/MC6-9 (io), 130 I/O/MC6-13 (io), 131 I/O/MC6-16 (io), 133 I/O/MC6-11 (io), 134 I/O/MC6-12 (io), 135 I/O/MC6-14 (io), 138 I/O/MC6-15 (io), 139 I/O/MC6-17 (io)
part G pins: 79 I/O/MC7-2 (io), 82 I/O/MC7-5 (io), 84 I/O/MC7-3 (io), 85 I/O/MC7-4 (io), 86 I/O/MC7-6 (io), 87 I/O/MC7-7 (io), 88 I/O/MC7-8 (io), 89 I/O/MC7-10 (io), 90 I/O/MC7-9 (io), 91 I/O/MC7-13 (io), 92 I/O/MC7-11 (io), 93 I/O/MC7-16 (io), 95 I/O/MC7-12 (io), 96 I/O/MC7-14 (io), 97 I/O/MC7-15 (io), 98 I/O/MC7-17 (io)
part H pins: 101 I/O/MC8-2 (io), 102 I/O/MC8-5 (io), 103 I/O/MC8-6 (io), 104 I/O/MC8-8 (io), 105 I/O/MC8-3 (io), 106 I/O/MC8-9 (io), 107 I/O/MC8-4 (io), 108 I/O/MC8-11 (io), 109 I/O/MC8-7 (io), 111 I/O/MC8-12 (io), 112 I/O/MC8-10 (io), 113 I/O/MC8-14 (io), 114 I/O/MC8-13 (io), 115 I/O/MC8-15 (io), 116 I/O/MC8-17 (io), 118 I/O/MC8-16 (io)
part I pins: 71 TDI (in), 73 TMS (in), 75 TCK (in), 136 TDO (out)
part J pins: 1 VCC IO (power), 10 VCC INT (power), 41 VCC IO (power), 46 VCC INT (power), 61 VCC IO (power), 81 VCC IO (power), 94 VCC INT (power), 121 VCC IO (power), 141 VCC IO (power), 157 VCC INT (power)
part K pins: 20 GND (power), 31 GND (power), 40 GND (power), 51 GND (power), 70 GND (power), 80 GND (power), 99 GND (power), 100 GND (power), 110 GND (power), 120 GND (power), 127 GND (power), 137 GND (power), 160 GND (power)
part A text: BANK 1
part B text: BANK 2
part C text: BANK 3
part D text: BANK 4
part E text: BANK 5
part F text: BANK 6
part G text: BANK 7
part H text: BANK 8

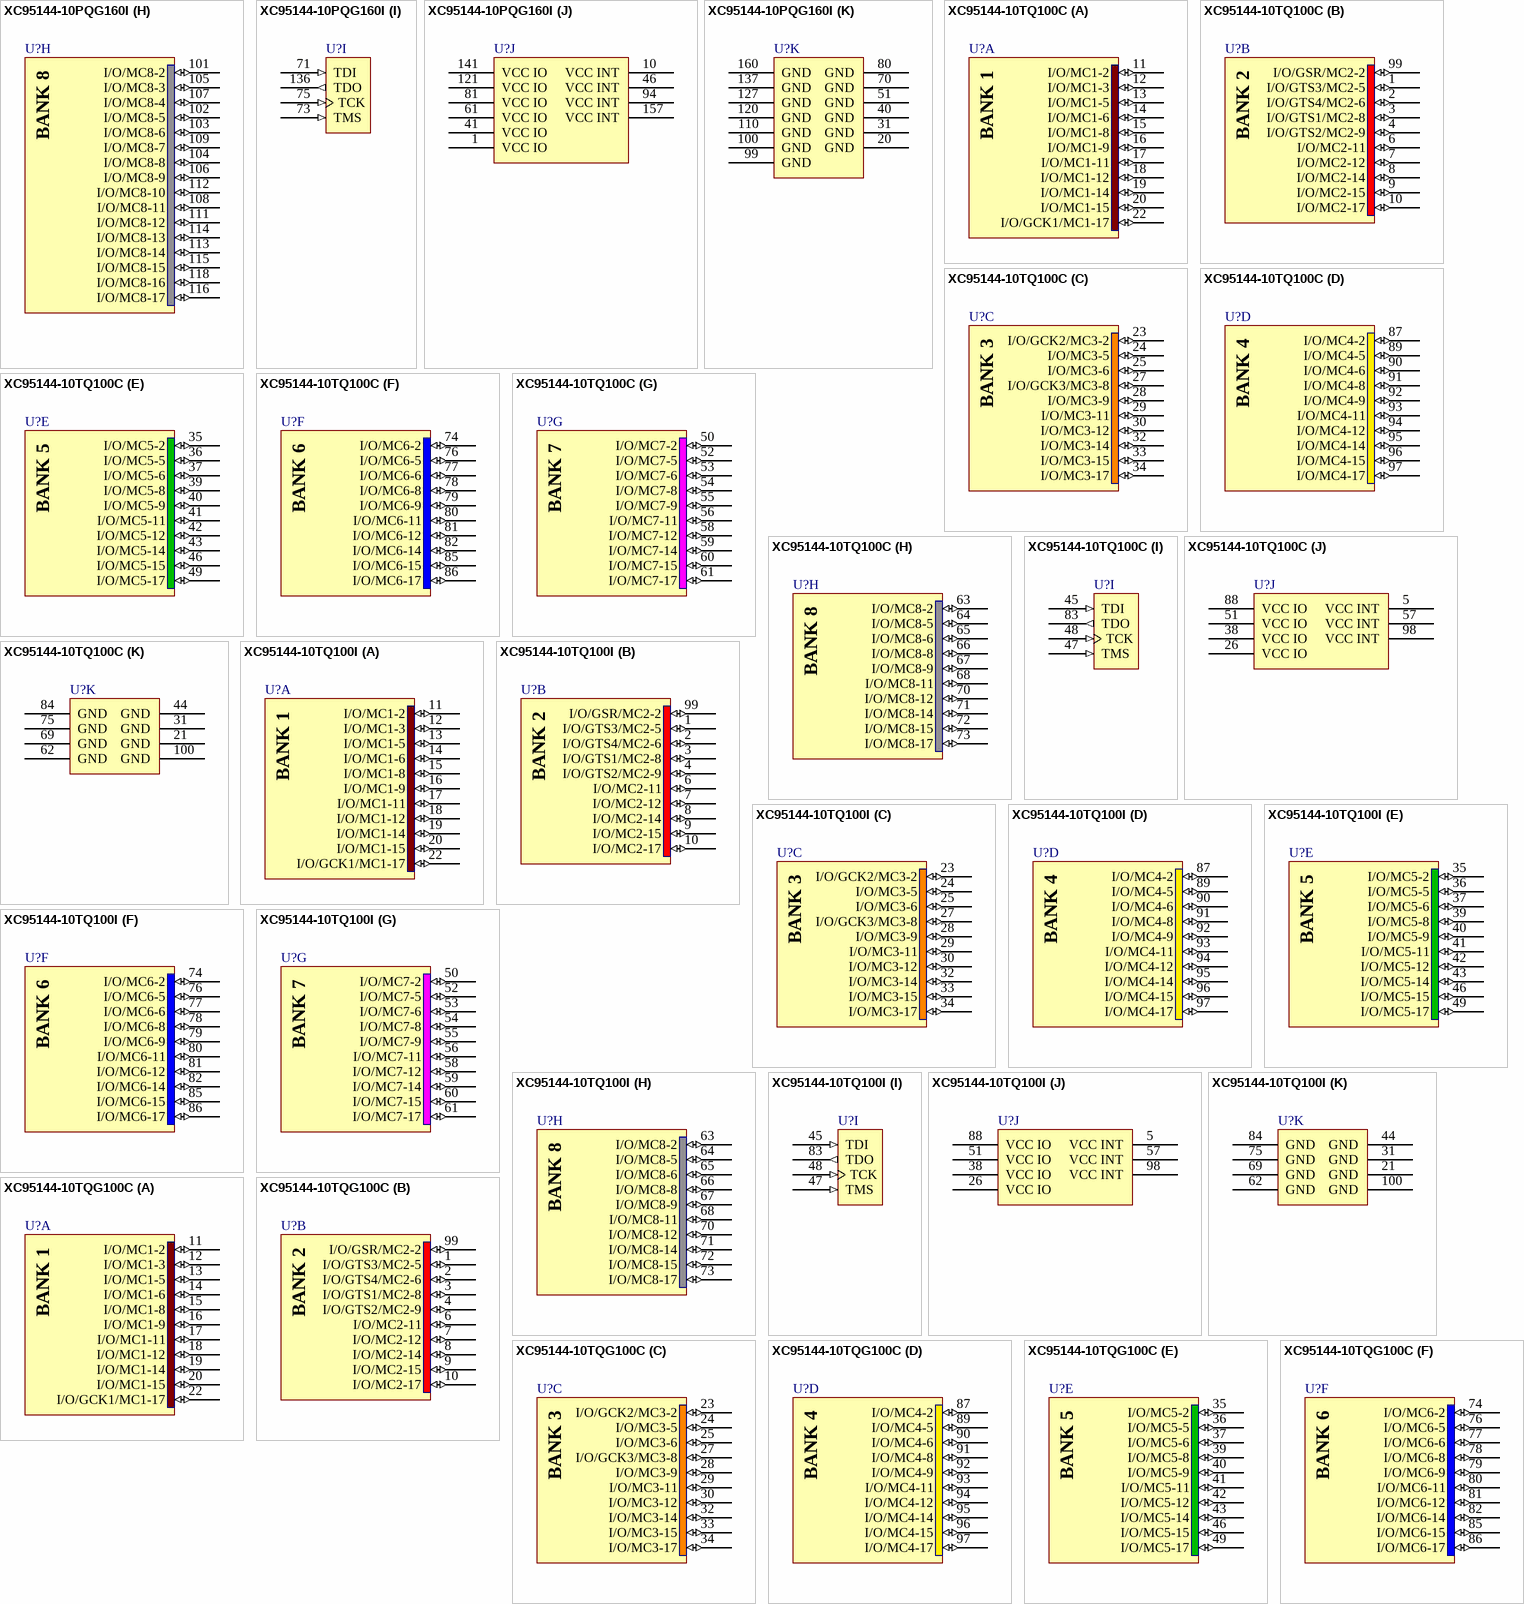
[diagram p46: symbols XC95144-10PQG160I to XC95144-10TQG100C]